# Altium integrated library Altera APEX II.IntLib: 30 symbols (part 9 of 15)
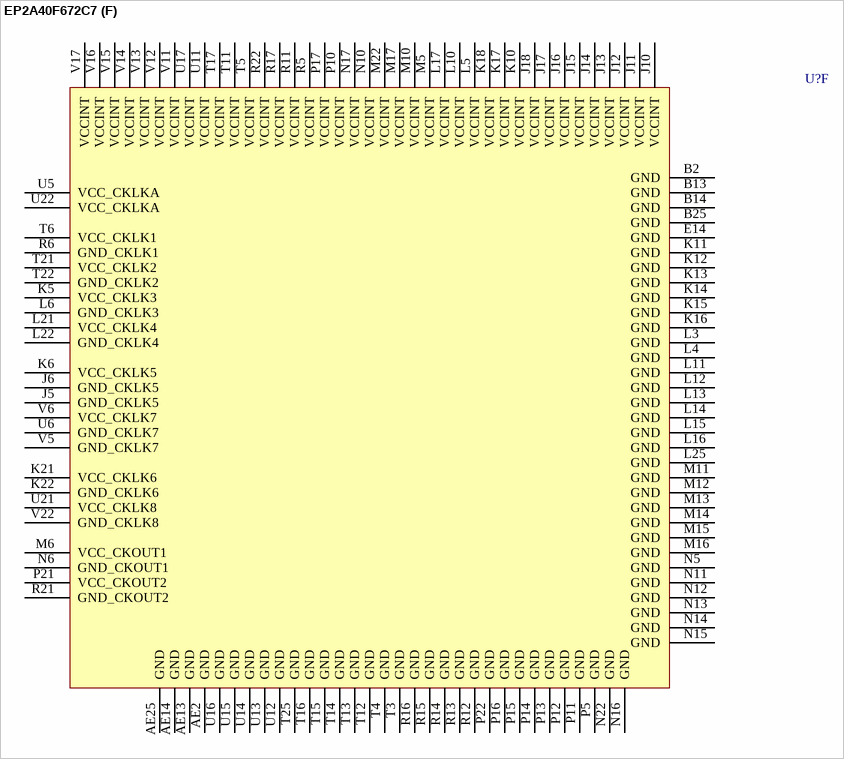
[diagram p139: symbol EP2A40F672C7]

## EP2A40F672C7
designator U?
APEX II, 1.5V FPGA with 4 PLLs, 492 I/O pins, Commercial Grade, Speed Grade 7; Published: 23-Sep-2002; LatestRevisionDate: 13-Apr-2006; LatestRevisionNote: IPC-7351 Footprint Added.; DatasheetVersion: ver3.0, Aug-2002; PackageVersion: ver14.1, Oct-2005; PackageReference: FBGA672; Publisher: Altium Limited; PackageDescription: 672-Ball FineLine Ball Grid Array (FBGA672) - Flip Chip; Code_JEDEC: MS-034-AAL-1; ComponentLink1Description: Manufacturer Link; ComponentLink1URL: http://www.altera.com/products/devices/apex2/ap2-index.html; ComponentLink2Description: Datasheet; ComponentLink2URL: http://www.altera.com/literature/ds/ds_ap2.pdf
footprint FBGA672 (BGA, 672-Leads, Body 27x27mm, Pitch 1mm)
3D model EP2A40-FBGA672T (672-Ball FineLine Ball Grid Array (FBGA672) - Flip Chip)
part A pins: A2 VCCIO2 (power), A5 IO/FlexDiff_RX30n (io), A6 IO/FlexDiff_RX32n (io), A7 IO/FlexDiff_RX35n (io), A8 IO/FlexDiff_RX39n (io), A9 IO/FlexDiff_RX43p (io), A10 IO/FlexDiff_RX47p (io), A11 IO/FlexDiff_RX51p (io), A12 IO/FlexDiff_RX55p (io), A13 VCCIO2 (power), A14 VCCIO1 (power), A15 IO/FlexDiff_RX24p (io), A16 IO/FlexDiff_RX20p (io), A17 IO/FlexDiff_RX16p (io), A18 IO/FlexDiff_RX12n (io), A19 IO/FlexDiff_RX08n (io), A20 IO/FlexDiff_RX05n (io), A21 IO/DATA5/FlexDiff_RX03n (io), A22 IO/DATA4/FlexDiff_RX01n (io), A25 VCCIO1 (power), B5 IO/FlexDiff_RX30p (io), B6 IO/FlexDiff_RX32p (io), B7 IO/FlexDiff_RX35p (io), B8 IO/FlexDiff_RX39p (io), B9 IO/FlexDiff_RX43n (io), B10 IO/FlexDiff_RX47n (io), B11 IO/FlexDiff_RX51n (io), B12 IO/FlexDiff_RX55n (io), B15 IO/CLKUSR/FlexDiff_RX24n (io), B16 IO/FlexDiff_RX20n (io), B17 IO/FlexDiff_RX16n (io), B18 IO/FlexDiff_RX12p (io), B19 IO/FlexDiff_RX08p (io), B20 IO/FlexDiff_RX05p (io), B21 IO/FlexDiff_RX03p (io), B22 IO/FlexDiff_RX01p (io), C5 IO/FlexDiff_RX29n (io), C6 IO/FlexDiff_RX31n (io), C7 IO/FlexDiff_RX34n (io), C8 IO/FlexDiff_RX38n (io), C9 IO/FlexDiff_RX42n (io), C10 IO/FlexDiff_RX46p (io), C11 IO/FlexDiff_RX50p (io), C12 IO/FlexDiff_RX54p (io), C13 IO/FlexDiff_RX56p (io), C14 IO/FlexDiff_RX28p (io), C15 IO/FlexDiff_RX25p (io), C16 IO/FlexDiff_RX21p (io), C17 IO/FlexDiff_RX17p (io), C18 IO/FlexDiff_RX13n (io), C19 IO/FlexDiff_RX09n (io), C20 IO/FlexDiff_RX06n (io), C21 IO/FlexDiff_RX04n (io), C22 IO/FlexDiff_RX02n (io), D5 IO/FlexDiff_RX29p (io), D6 IO/FlexDiff_RX31p (io), D7 IO/FlexDiff_RX34p (io), D8 IO/FlexDiff_RX38p (io), D9 IO/FlexDiff_RX42p (io), D10 IO/FlexDiff_RX46n (io), D11 IO/FlexDiff_RX50n (io), D12 IO/FlexDiff_RX54n (io), D13 IO/FlexDiff_RX56n (io), D14 IO/FlexDiff_RX28n (io), D15 IO/FlexDiff_RX25n (io), D16 IO/FlexDiff_RX21n (io), D17 IO/FlexDiff_RX17n (io), D18 IO/FlexDiff_RX13p (io), D19 IO/FlexDiff_RX09p (io), D20 IO/FlexDiff_RX06p (io), D21 IO/FlexDiff_RX04p (io), D22 IO/FlexDiff_RX02p (io), E5 IO (io), E6 IO (io), E7 IO/FlexDiff_RX33n (io), E8 IO/FlexDiff_RX37n (io), E9 IO/FlexDiff_RX41n (io), E10 IO/FlexDiff_RX45p (io), E11 IO/FlexDiff_RX49p (io), E12 IO/FlexDiff_RX53p (io), E15 IO/RDYnBSY/FlexDiff_RX26p (io), E16 IO/DATA1/FlexDiff_RX22p (io), E17 IO/FlexDiff_RX18p (io), E18 IO/FlexDiff_RX14n (io), E19 IO/FlexDiff_RX10n (io), E20 IO/FlexDiff_RX07n (io), E21 IO (io), E22 VREFC1 (power), F6 IO (io), F7 IO/FlexDiff_RX33p (io), F8 IO/FlexDiff_RX37p (io), F9 IO/FlexDiff_RX41p (io), F10 IO/FlexDiff_RX45n (io), F11 IO/FlexDiff_RX49n (io), F12 IO/FlexDiff_RX53n (io), F15 IO/FlexDiff_RX26n (io), F16 IO/FlexDiff_RX22n (io), F17 IO/FlexDiff_RX18n (io), F18 IO/DATA3/FlexDiff_RX14p (io), F19 IO/FlexDiff_RX10p (io), F20 IO/FlexDiff_RX07p (io), F21 IO (io), G7 IO (io), G8 IO/FlexDiff_RX36n (io), G9 IO/FlexDiff_RX40n (io), G10 IO/FlexDiff_RX44p (io), G11 IO/FlexDiff_RX48p (io), G12 IO/FlexDiff_RX52p (io), G15 IO/FlexDiff_RX27p (io), G16 IO/FlexDiff_RX23p (io), G17 IO/FlexDiff_RX19p (io), G18 IO/FlexDiff_RX15p (io), G19 IO/FlexDiff_RX11n (io), G20 IO (io), H8 IO/FlexDiff_RX36p (io), H9 IO/FlexDiff_RX40p (io), H10 IO/FlexDiff_RX44n (io), H11 IO/FlexDiff_RX48n (io), H12 IO/FlexDiff_RX52n (io), H13 VCCIO2 (power), H14 VCCIO1 (power), H15 IO/INIT_DONE/FlexDiff_RX27n (io), H16 IO/FlexDiff_RX23n (io), H17 IO/FlexDiff_RX19n (io), H18 IO/FlexDiff_RX15n (io), H19 IO/FlexDiff_RX11p (io), H20 IO/DATA2 (io), J9 VREFC2 (power)
part B pins: A3 IO/TrueDiff_RX02p (io), A4 IO/TrueDiff_RX01n (io), AA1 IO/TrueDiff_RX28n (io), AA2 IO/TrueDiff_RX28p (io), AA3 IO/TrueDiff_RX27p (io), AA4 IO/TrueDiff_RX27n (io), AA5 IO (io), AB1 IO/TrueDiff_RX26n (io), AB2 IO/TrueDiff_RX26p (io), AB3 IO/TrueDiff_RX25p (io), AB4 IO/TrueDiff_RX25n (io), AC1 IO/TrueDiff_RX24n (io), AC2 IO/TrueDiff_RX24p (io), AC3 IO/TrueDiff_RX23p (io), AC4 IO/TrueDiff_RX23n (io), AD1 IO/TrueDiff_RX22n (io), AD2 IO/TrueDiff_RX22p (io), AD3 IO/TrueDiff_RX21p (io), AD4 IO/TrueDiff_RX21n (io), AE1 VCCIO4 (power), AE3 IO/TrueDiff_RX20p (io), AE4 IO/TrueDiff_RX19n (io), AF3 IO/TrueDiff_RX20n (io), AF4 IO/TrueDiff_RX19p (io), B1 VCCIO3 (power), B3 IO/TrueDiff_RX02n (io), B4 IO/TrueDiff_RX01p (io), C1 IO/TrueDiff_RX04n (io), C2 IO/TrueDiff_RX04p (io), C3 IO/TrueDiff_RX03p (io), C4 IO/TrueDiff_RX03n (io), D1 IO/TrueDiff_RX06n (io), D2 IO/TrueDiff_RX06p (io), D3 IO/TrueDiff_RX05p (io), D4 IO/TrueDiff_RX05n (io), E1 IO/TrueDiff_RX08n (io), E2 IO/TrueDiff_RX08p (io), E3 IO/TrueDiff_RX07p (io), E4 IO/TrueDiff_RX07n (io), F1 IO/TrueDiff_RX10n (io), F2 IO/TrueDiff_RX10p (io), F3 IO/TrueDiff_RX09p (io), F4 IO/TrueDiff_RX09n (io), F5 IO (io), G1 IO/TrueDiff_RX12n (io), G2 IO/TrueDiff_RX12p (io), G3 IO/TrueDiff_RX11p (io), G4 IO/TrueDiff_RX11n (io), G5 IO (io), G6 IO (io), H1 IO/TrueDiff_RX14n (io), H2 IO/TrueDiff_RX14p (io), H3 IO/TrueDiff_RX13p (io), H4 IO/TrueDiff_RX13n (io), H5 IO (io), H6 IO (io), H7 IO (io), J1 IO/TrueDiff_RX16n (io), J2 IO/TrueDiff_RX16p (io), J3 IO/TrueDiff_RX15p (io), J4 IO/TrueDiff_RX15n (io), J7 VREFC3 (power), J8 IO (io), K1 IO/TrueDiff_RX18n (io), K2 IO/TrueDiff_RX18p (io), K3 IO/TrueDiff_RX17p (io), K4 IO/TrueDiff_RX17n (io), K7 IO/RXLOCK1 (io), K8 IO (io), K9 IO (io), L1 VCCIO3 (power), L2 VCCIO3 (power), L7 IO/LOCK3 (io), L8 IO (io), L9 IO (io), M1 IO/RXCLK_IN1n (io), M2 IO/RXCLK_IN1p (io), M3 CLK7p (in), M4 IO/CLK7n (io), M8 IO (io), M9 IO (io), N1 IO/CLK5n (io), N2 CLK5p (in), N3 IO/CLKLK_OUT1n (io), N4 CLKLK_OUT1p (out), N8 IO (io), N9 IO (io), P1 CLK1p (in), P2 IO/CLK1n (io), P3 CLK3p (in), P4 IO/CLK3n (io), P8 IO (io), P9 IO (io), R1 IO/CLKLK_FB1n (io), R2 CLKLK_FB1p, R3 IO/RXCLK_IN2n (io), R4 IO/RXCLK_IN2p (io), R8 IO (io), R9 IO (io), R10 IO (io), T1 VCCIO4 (power), T2 VCCIO4 (power), T7 IO/LOCK1 (io), T8 IO (io), T9 IO (io), T10 IO (io), U1 IO/TrueDiff_RX36n (io), U2 IO/TrueDiff_RX36p (io), U3 IO/TrueDiff_RX35p (io), U4 IO/TrueDiff_RX35n (io), U7 IO/RXLOCK2 (io), U8 IO (io), U9 IO (io), U10 IO (io), V1 IO/TrueDiff_RX34n (io), V2 IO/TrueDiff_RX34p (io), V3 IO/TrueDiff_RX33p (io), V4 IO/TrueDiff_RX33n (io), V7 VREFC4 (power), V8 IO (io), W1 IO/TrueDiff_RX32n (io), W2 IO/TrueDiff_RX32p (io), W3 IO/TrueDiff_RX31p (io), W4 IO/TrueDiff_RX31n (io), W5 IO (io), W6 IO (io), W7 IO (io), Y1 IO/TrueDiff_RX30n (io), Y2 IO/TrueDiff_RX30p (io), Y3 IO/TrueDiff_RX29p (io), Y4 IO/TrueDiff_RX29n (io), Y5 IO (io), Y6 IO (io), Y7 IO (io)
part C pins: AA6 IO (io), AA7 IO/FlexDiff_TX33p (io), AA8 IO/FlexDiff_TX37p (io), AA9 IO/FlexDiff_TX41p (io), AA10 IO/FlexDiff_TX45n (io), AA11 IO/FlexDiff_TX49n (io), AA12 IO/FlexDiff_TX53n (io), AA15 IO/FlexDiff_TX26n (io), AA16 IO/FlexDiff_TX22n (io), AA17 IO/FlexDiff_TX18n (io), AA18 IO/FlexDiff_TX14p (io), AA19 IO/FlexDiff_TX10p (io), AA20 IO/FlexDiff_TX07p (io), AA21 IO (io), AB5 IO (io), AB6 IO (io), AB7 IO/FlexDiff_TX33n (io), AB8 IO/FlexDiff_TX37n (io), AB9 IO/FlexDiff_TX41n (io), AB10 IO/FlexDiff_TX45p (io), AB11 IO/FlexDiff_TX49p (io), AB12 IO/FlexDiff_TX53p (io), AB15 IO/FlexDiff_TX26p (io), AB16 IO/FlexDiff_TX22p (io), AB17 IO/FlexDiff_TX18p (io), AB18 IO/FlexDiff_TX14n (io), AB19 IO/FlexDiff_TX10n (io), AB20 IO/FlexDiff_TX07n (io), AB21 IO (io), AC5 IO/FlexDiff_TX29p (io), AC6 IO/FlexDiff_TX31p (io), AC7 IO/FlexDiff_TX34p (io), AC8 IO/FlexDiff_TX38p (io), AC9 IO/FlexDiff_TX42p (io), AC10 IO/FlexDiff_TX46n (io), AC11 IO/FlexDiff_TX50n (io), AC12 IO/FlexDiff_TX54n (io), AC13 IO/FlexDiff_TX56n (io), AC14 IO/FlexDiff_TX28n (io), AC15 IO/FlexDiff_TX25n (io), AC16 IO/FlexDiff_TX21n (io), AC17 IO/FlexDiff_TX17n (io), AC18 IO/FlexDiff_TX13p (io), AC19 IO/FlexDiff_TX09p (io), AC20 IO/FlexDiff_TX06p (io), AC21 IO/FlexDiff_TX04p (io), AC22 IO/FlexDiff_TX02p (io), AD5 IO/FlexDiff_TX29n (io), AD6 IO/FlexDiff_TX31n (io), AD7 IO/FlexDiff_TX34n (io), AD8 IO/FlexDiff_TX38n (io), AD9 IO/FlexDiff_TX42n (io), AD10 IO/FlexDiff_TX46p (io), AD11 IO/FlexDiff_TX50p (io), AD12 IO/FlexDiff_TX54p (io), AD13 IO/FlexDiff_TX56p (io), AD14 IO/FlexDiff_TX28p (io), AD15 IO/FlexDiff_TX25p (io), AD16 IO/FlexDiff_TX21p (io), AD17 IO/FlexDiff_TX17p (io), AD18 IO/FlexDiff_TX13n (io), AD19 IO/FlexDiff_TX09n (io), AD20 IO/FlexDiff_TX06n (io), AD21 IO/FlexDiff_TX04n (io), AD22 IO/FlexDiff_TX02n (io), AE5 IO/FlexDiff_TX30p (io), AE6 IO/FlexDiff_TX32p (io), AE7 IO/FlexDiff_TX35p (io), AE8 IO/FlexDiff_TX39p (io), AE9 IO/FlexDiff_TX43n (io), AE10 IO/FlexDiff_TX47n (io), AE11 IO/FlexDiff_TX51n (io), AE12 IO/FlexDiff_TX55n (io), AE15 IO/FlexDiff_TX24n (io), AE16 IO/FlexDiff_TX20n (io), AE17 IO/FlexDiff_TX16n (io), AE18 IO/FlexDiff_TX12p (io), AE19 IO/FlexDiff_TX08p (io), AE20 IO/FlexDiff_TX05p (io), AE21 IO/FlexDiff_TX03p (io), AE22 IO/FlexDiff_TX01p (io), AF2 VCCIO5 (power), AF5 IO/FlexDiff_TX30n (io), AF6 IO/FlexDiff_TX32n (io), AF7 IO/FlexDiff_TX35n (io), AF8 IO/FlexDiff_TX39n (io), AF9 IO/FlexDiff_TX43p (io), AF10 IO/FlexDiff_TX47p (io), AF11 IO/FlexDiff_TX51p (io), AF12 IO/FlexDiff_TX55p (io), AF13 VCCIO5 (power), AF14 VCCIO6 (power), AF15 IO/FlexDiff_TX24p (io), AF16 IO/FlexDiff_TX20p (io), AF17 IO/FlexDiff_TX16p (io), AF18 IO/FlexDiff_TX12n (io), AF19 IO/FlexDiff_TX08n (io), AF20 IO/FlexDiff_TX05n (io), AF21 IO/FlexDiff_TX03n (io), AF22 IO/FlexDiff_TX01n (io), AF25 VCCIO6 (power), V9 IO (io), V10 VREFC5 (power), V18 IO/CDS_ENA (io), W8 IO/FlexDiff_TX36p (io), W9 IO/FlexDiff_TX40p (io), W10 IO/FlexDiff_TX44n (io), W11 IO/FlexDiff_TX48n (io), W12 IO/FlexDiff_TX52n (io), W13 VCCIO5 (power), W14 VCCIO6 (power), W15 IO/FlexDiff_TX27n (io), W16 IO/FlexDiff_TX23n (io), W17 IO/FlexDiff_TX19n (io), W18 IO/FlexDiff_TX15n (io), W19 IO/FlexDiff_TX11p (io), W20 VREFC6 (power), Y8 IO/FlexDiff_TX36n (io), Y9 IO/FlexDiff_TX40n (io), Y10 IO/FlexDiff_TX44p (io), Y11 IO/FlexDiff_TX48p (io), Y12 IO/FlexDiff_TX52p (io), Y15 IO/FlexDiff_TX27p (io), Y16 IO/FlexDiff_TX23p (io), Y17 IO/FlexDiff_TX19p (io), Y18 IO/FlexDiff_TX15p (io), Y19 IO/FlexDiff_TX11n (io), Y20 IO (io)
part D pins: A23 IO/TrueDiff_TX01p (io), A24 IO/TrueDiff_TX02n (io), AA22 IO/TXLOCK2 (io), AA23 IO/TrueDiff_TX27n (io), AA24 IO/TrueDiff_TX27p (io), AA25 IO/TrueDiff_TX28p (io), AA26 IO/TrueDiff_TX28n (io), AB22 IO (io), AB23 IO/TrueDiff_TX25n (io), AB24 IO/TrueDiff_TX25p (io), AB25 IO/TrueDiff_TX26p (io), AB26 IO/TrueDiff_TX26n (io), AC23 IO/TrueDiff_TX23n (io), AC24 IO/TrueDiff_TX23p (io), AC25 IO/TrueDiff_TX24p (io), AC26 IO/TrueDiff_TX24n (io), AD23 IO/TrueDiff_TX21n (io), AD24 IO/TrueDiff_TX21p (io), AD25 IO/TrueDiff_TX22p (io), AD26 IO/TrueDiff_TX22n (io), AE23 IO/TrueDiff_TX19p (io), AE24 IO/TrueDiff_TX20n (io), AE26 VCCIO7 (power), AF23 IO/TrueDiff_TX19n (io), AF24 IO/TrueDiff_TX20p (io), B23 IO/TrueDiff_TX01n (io), B24 IO/TrueDiff_TX02p (io), B26 VCCIO8 (power), C23 IO/TrueDiff_TX03n (io), C24 IO/TrueDiff_TX03p (io), C25 IO/TrueDiff_TX04p (io), C26 IO/TrueDiff_TX04n (io), D23 IO/TrueDiff_TX05n (io), D24 IO/TrueDiff_TX05p (io), D25 IO/TrueDiff_TX06p (io), D26 IO/TrueDiff_TX06n (io), E23 IO/TrueDiff_TX07n (io), E24 IO/TrueDiff_TX07p (io), E25 IO/TrueDiff_TX08p (io), E26 IO/TrueDiff_TX08n (io), F22 IO/nWS (io), F23 IO/TrueDiff_TX09n (io), F24 IO/TrueDiff_TX09p (io), F25 IO/TrueDiff_TX10p (io), F26 IO/TrueDiff_TX10n (io), G21 IO/nCS (io), G22 IO/nRS (io), G23 IO/TrueDiff_TX11n (io), G24 IO/TrueDiff_TX11p (io), G25 IO/TrueDiff_TX12p (io), G26 IO/TrueDiff_TX12n (io), H21 IO/DEV_CLRn (io), H22 IO/CS (io), H23 IO/TrueDiff_TX13n (io), H24 IO/TrueDiff_TX13p (io), H25 IO/TrueDiff_TX14p (io), H26 IO/TrueDiff_TX14n (io), J19 IO (io), J20 IO (io), J21 IO/TXLOCK1 (io), J22 VREFC8 (power), J23 IO/TrueDiff_TX15p (io), J24 IO/TrueDiff_TX15n (io), J25 IO/TrueDiff_TX16p (io), J26 IO/TrueDiff_TX16n (io), K19 IO (io), K20 IO/LOCK4 (io), K23 IO/TrueDiff_TX17n (io), K24 IO/TrueDiff_TX17p (io), K25 IO/TrueDiff_TX18p (io), K26 IO/TrueDiff_TX18n (io), L18 IO (io), L19 IO (io), L20 IO/DATA6 (io), L23 IO/TXCLK_OUT1n (io), L24 IO/TXCLK_OUT1p (io), L26 VCCIO8 (power), M18 IO (io), M19 IO (io), M20 IO/DATA7 (io), M21 VCCIO8 (power), M23 IO/CLK4n (io), M24 CLK4p (in), M25 IO (io), M26 IO (io), N18 IO (io), N19 IO (io), N21 VCCIO7 (power), N23 CLK2p (in), N24 IO/CLK2n (io), N25 CLKLK_FB2p, N26 IO/CLKLK_FB2n (io), P18 IO (io), P19 IO (io), P23 IO/CLK6n (io), P24 CLK6p (in), P25 CLKLK_OUT2p (out), P26 IO/CLKLK_OUT2n (io), R18 IO (io), R19 IO (io), R23 IO (io), R24 IO (io), R25 IO/CLK8n (io), R26 CLK8p (in), T18 IO (io), T19 IO (io), T23 IO/TXCLK_OUT2n (io), T24 IO/TXCLK_OUT2p (io), T26 VCCIO7 (power), U18 IO (io), U19 IO (io), U23 IO/TrueDiff_TX35n (io), U24 IO/TrueDiff_TX35p (io), U25 IO/TrueDiff_TX36p (io), U26 IO/TrueDiff_TX36n (io), V19 IO (io), V20 IO (io), V21 IO/DEV_OE (io), V23 IO/TrueDiff_TX33n (io), V24 IO/TrueDiff_TX33p (io), V25 IO/TrueDiff_TX34p (io), V26 IO/TrueDiff_TX34n (io), W21 IO (io), W22 IO/LOCK2 (io), W23 IO/TrueDiff_TX31n (io), W24 IO/TrueDiff_TX31p (io), W25 IO/TrueDiff_TX32p (io), W26 IO/TrueDiff_TX32n (io), Y21 IO (io), Y22 VREFC7 (power), Y23 IO/TrueDiff_TX29n (io), Y24 IO/TrueDiff_TX29p (io), Y25 IO/TrueDiff_TX30p (io), Y26 IO/TrueDiff_TX30n (io)
part E pins: AA13 TCK (in), AA14 nSTATUS (in), AB13 TMS (in), AB14 CONF_DONE (in), E13 TRST (in), F13 nCEO (out), F14 TDO (out), G13 FAST1 (in), G14 FAST2 (in), M7 MSEL1 (in), N7 MSEL0 (in), N20 nIO_PULLUP (in), P6 VCCSEL (in), P7 nCONFIG (in), P20 DATA0 (in), R7 PLL_ENA (in), R20 DCLK (in), T20 TDI (in), U20 nCE (in), Y13 FAST3 (in), Y14 FAST4 (in)
part F pins: AE2 GND (power), AE13 GND (power), AE14 GND (power), AE25 GND (power), B2 GND (power), B13 GND (power), B14 GND (power), B25 GND (power), E14 GND (power), J5 GND_CKLK5 (power), J6 GND_CKLK5 (power), J10 VCCINT (power), J11 VCCINT (power), J12 VCCINT (power), J13 VCCINT (power), J14 VCCINT (power), J15 VCCINT (power), J16 VCCINT (power), J17 VCCINT (power), J18 VCCINT (power), K5 VCC_CKLK3 (power), K6 VCC_CKLK5 (power), K10 VCCINT (power), K11 GND (power), K12 GND (power), K13 GND (power), K14 GND (power), K15 GND (power), K16 GND (power), K17 VCCINT (power), K18 VCCINT (power), K21 VCC_CKLK6 (power), K22 GND_CKLK6 (power), L3 GND (power), L4 GND (power), L5 VCCINT (power), L6 GND_CKLK3 (power), L10 VCCINT (power), L11 GND (power), L12 GND (power), L13 GND (power), L14 GND (power), L15 GND (power), L16 GND (power), L17 VCCINT (power), L21 VCC_CKLK4 (power), L22 GND_CKLK4 (power), L25 GND (power), M5 VCCINT (power), M6 VCC_CKOUT1 (power), M10 VCCINT (power), M11 GND (power), M12 GND (power), M13 GND (power), M14 GND (power), M15 GND (power), M16 GND (power), M17 VCCINT (power), M22 VCCINT (power), N5 GND (power), N6 GND_CKOUT1 (power), N10 VCCINT (power), N11 GND (power), N12 GND (power), N13 GND (power), N14 GND (power), N15 GND (power), N16 GND (power), N17 VCCINT (power), N22 GND (power), P5 GND (power), P10 VCCINT (power), P11 GND (power), P12 GND (power), P13 GND (power), P14 GND (power), P15 GND (power), P16 GND (power), P17 VCCINT (power), P21 VCC_CKOUT2 (power), P22 GND (power), R5 VCCINT (power), R6 GND_CKLK1 (power), R11 VCCINT (power), R12 GND (power), R13 GND (power), R14 GND (power), R15 GND (power), R16 GND (power), R17 VCCINT (power), R21 GND_CKOUT2 (power), R22 VCCINT (power), T3 GND (power), T4 GND (power), T5 VCCINT (power), T6 VCC_CKLK1 (power), T11 VCCINT (power), T12 GND (power), T13 GND (power), T14 GND (power), T15 GND (power), T16 GND (power), T17 VCCINT (power), T21 VCC_CKLK2 (power), T22 GND_CKLK2 (power), T25 GND (power), U5 VCC_CKLKA (power), U6 GND_CKLK7 (power), U11 VCCINT (power), U12 GND (power), U13 GND (power), U14 GND (power), U15 GND (power), U16 GND (power), U17 VCCINT (power), U21 VCC_CKLK8 (power), U22 VCC_CKLKA (power), V5 GND_CKLK7 (power), V6 VCC_CKLK7 (power), V11 VCCINT (power), V12 VCCINT (power), V13 VCCINT (power), V14 VCCINT (power), V15 VCCINT (power), V16 VCCINT (power), V17 VCCINT (power), V22 GND_CKLK8 (power)
part A text: BANK 2; BANK 1
part B text: BANK 4; BANK 3
part C text: BANK 6; BANK 5
part D text: BANK 8; BANK 7

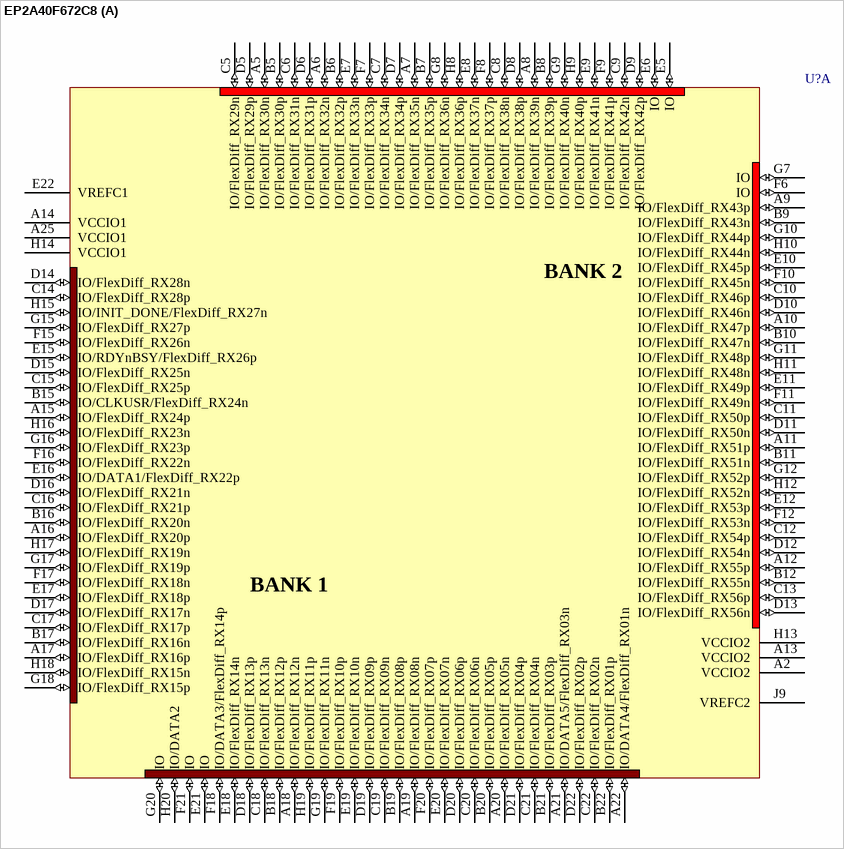
[diagram p81: symbol EP2A40F672C8]

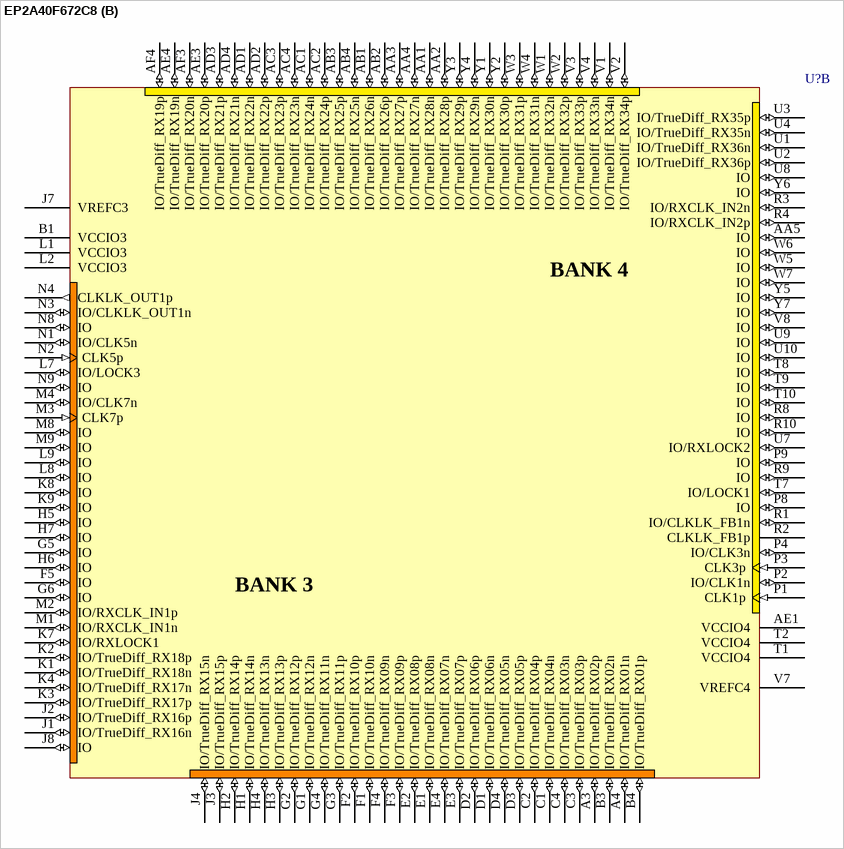
[diagram p82: symbol EP2A40F672C8]

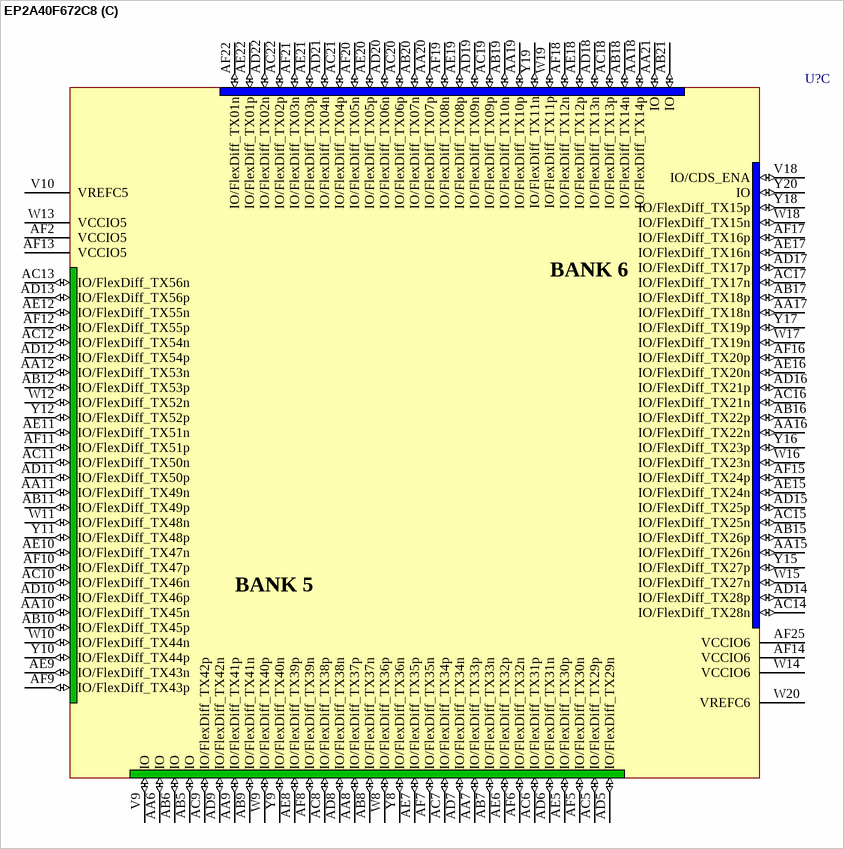
[diagram p83: symbol EP2A40F672C8]

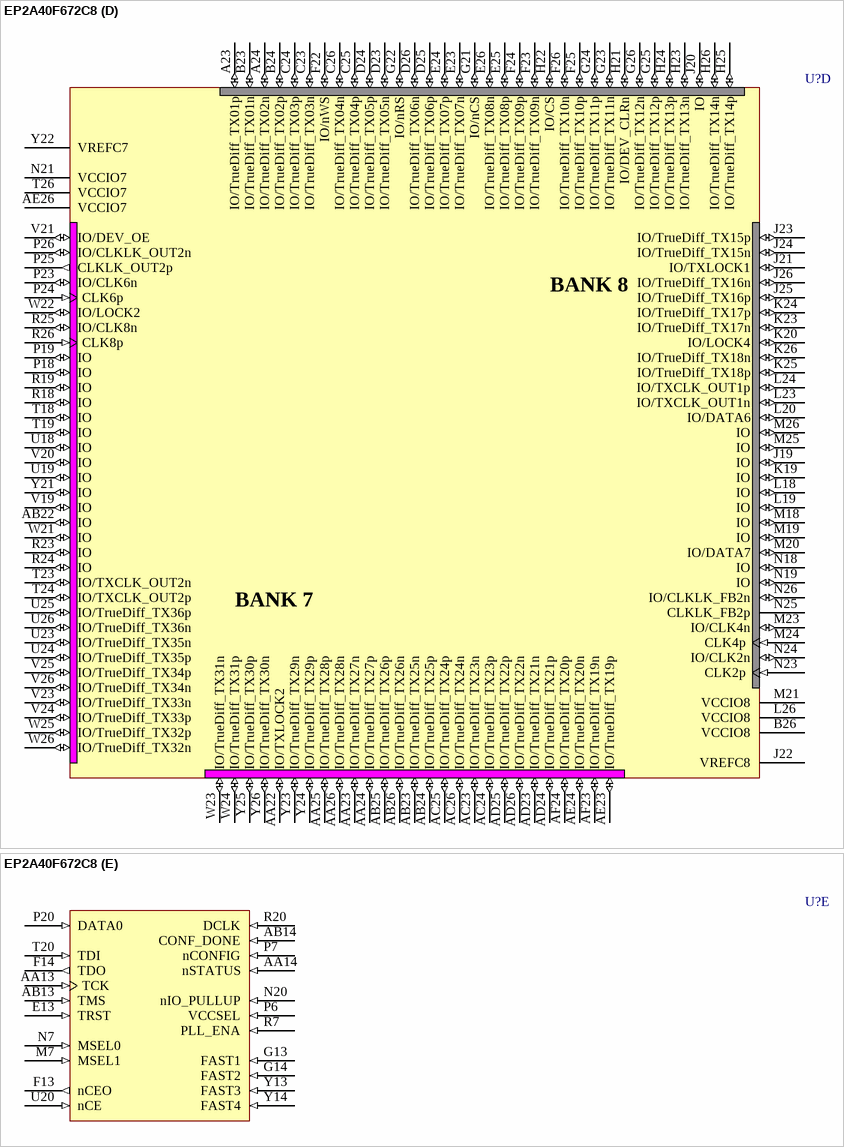
[diagram p84: symbol EP2A40F672C8]

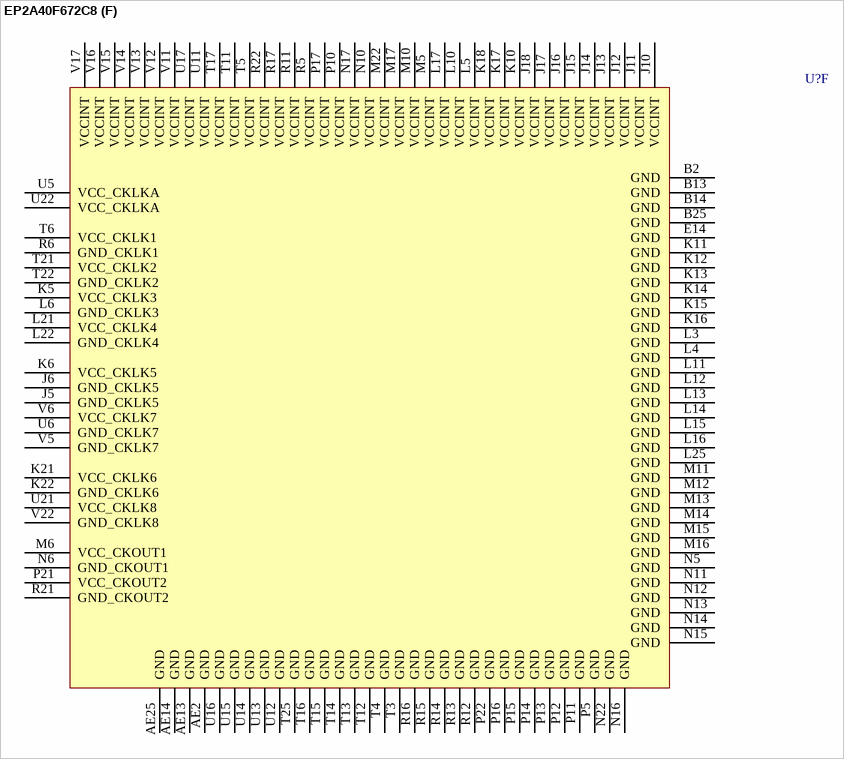
[diagram p85: symbol EP2A40F672C8]

## EP2A40F672C8
designator U?
APEX II, 1.5V FPGA with 4 PLLs, 492 I/O pins, Commercial Grade, Speed Grade 8; Published: 23-Sep-2002; LatestRevisionDate: 13-Apr-2006; LatestRevisionNote: IPC-7351 Footprint Added.; DatasheetVersion: ver3.0, Aug-2002; PackageVersion: ver14.1, Oct-2005; PackageReference: FBGA672; Publisher: Altium Limited; PackageDescription: 672-Ball FineLine Ball Grid Array (FBGA672) - Flip Chip; Code_JEDEC: MS-034-AAL-1; ComponentLink1Description: Manufacturer Link; ComponentLink1URL: http://www.altera.com/products/devices/apex2/ap2-index.html; ComponentLink2Description: Datasheet; ComponentLink2URL: http://www.altera.com/literature/ds/ds_ap2.pdf
footprint FBGA672 (BGA, 672-Leads, Body 27x27mm, Pitch 1mm)
3D model EP2A40-FBGA672T (672-Ball FineLine Ball Grid Array (FBGA672) - Flip Chip)
part A pins: A2 VCCIO2 (power), A5 IO/FlexDiff_RX30n (io), A6 IO/FlexDiff_RX32n (io), A7 IO/FlexDiff_RX35n (io), A8 IO/FlexDiff_RX39n (io), A9 IO/FlexDiff_RX43p (io), A10 IO/FlexDiff_RX47p (io), A11 IO/FlexDiff_RX51p (io), A12 IO/FlexDiff_RX55p (io), A13 VCCIO2 (power), A14 VCCIO1 (power), A15 IO/FlexDiff_RX24p (io), A16 IO/FlexDiff_RX20p (io), A17 IO/FlexDiff_RX16p (io), A18 IO/FlexDiff_RX12n (io), A19 IO/FlexDiff_RX08n (io), A20 IO/FlexDiff_RX05n (io), A21 IO/DATA5/FlexDiff_RX03n (io), A22 IO/DATA4/FlexDiff_RX01n (io), A25 VCCIO1 (power), B5 IO/FlexDiff_RX30p (io), B6 IO/FlexDiff_RX32p (io), B7 IO/FlexDiff_RX35p (io), B8 IO/FlexDiff_RX39p (io), B9 IO/FlexDiff_RX43n (io), B10 IO/FlexDiff_RX47n (io), B11 IO/FlexDiff_RX51n (io), B12 IO/FlexDiff_RX55n (io), B15 IO/CLKUSR/FlexDiff_RX24n (io), B16 IO/FlexDiff_RX20n (io), B17 IO/FlexDiff_RX16n (io), B18 IO/FlexDiff_RX12p (io), B19 IO/FlexDiff_RX08p (io), B20 IO/FlexDiff_RX05p (io), B21 IO/FlexDiff_RX03p (io), B22 IO/FlexDiff_RX01p (io), C5 IO/FlexDiff_RX29n (io), C6 IO/FlexDiff_RX31n (io), C7 IO/FlexDiff_RX34n (io), C8 IO/FlexDiff_RX38n (io), C9 IO/FlexDiff_RX42n (io), C10 IO/FlexDiff_RX46p (io), C11 IO/FlexDiff_RX50p (io), C12 IO/FlexDiff_RX54p (io), C13 IO/FlexDiff_RX56p (io), C14 IO/FlexDiff_RX28p (io), C15 IO/FlexDiff_RX25p (io), C16 IO/FlexDiff_RX21p (io), C17 IO/FlexDiff_RX17p (io), C18 IO/FlexDiff_RX13n (io), C19 IO/FlexDiff_RX09n (io), C20 IO/FlexDiff_RX06n (io), C21 IO/FlexDiff_RX04n (io), C22 IO/FlexDiff_RX02n (io), D5 IO/FlexDiff_RX29p (io), D6 IO/FlexDiff_RX31p (io), D7 IO/FlexDiff_RX34p (io), D8 IO/FlexDiff_RX38p (io), D9 IO/FlexDiff_RX42p (io), D10 IO/FlexDiff_RX46n (io), D11 IO/FlexDiff_RX50n (io), D12 IO/FlexDiff_RX54n (io), D13 IO/FlexDiff_RX56n (io), D14 IO/FlexDiff_RX28n (io), D15 IO/FlexDiff_RX25n (io), D16 IO/FlexDiff_RX21n (io), D17 IO/FlexDiff_RX17n (io), D18 IO/FlexDiff_RX13p (io), D19 IO/FlexDiff_RX09p (io), D20 IO/FlexDiff_RX06p (io), D21 IO/FlexDiff_RX04p (io), D22 IO/FlexDiff_RX02p (io), E5 IO (io), E6 IO (io), E7 IO/FlexDiff_RX33n (io), E8 IO/FlexDiff_RX37n (io), E9 IO/FlexDiff_RX41n (io), E10 IO/FlexDiff_RX45p (io), E11 IO/FlexDiff_RX49p (io), E12 IO/FlexDiff_RX53p (io), E15 IO/RDYnBSY/FlexDiff_RX26p (io), E16 IO/DATA1/FlexDiff_RX22p (io), E17 IO/FlexDiff_RX18p (io), E18 IO/FlexDiff_RX14n (io), E19 IO/FlexDiff_RX10n (io), E20 IO/FlexDiff_RX07n (io), E21 IO (io), E22 VREFC1 (power), F6 IO (io), F7 IO/FlexDiff_RX33p (io), F8 IO/FlexDiff_RX37p (io), F9 IO/FlexDiff_RX41p (io), F10 IO/FlexDiff_RX45n (io), F11 IO/FlexDiff_RX49n (io), F12 IO/FlexDiff_RX53n (io), F15 IO/FlexDiff_RX26n (io), F16 IO/FlexDiff_RX22n (io), F17 IO/FlexDiff_RX18n (io), F18 IO/DATA3/FlexDiff_RX14p (io), F19 IO/FlexDiff_RX10p (io), F20 IO/FlexDiff_RX07p (io), F21 IO (io), G7 IO (io), G8 IO/FlexDiff_RX36n (io), G9 IO/FlexDiff_RX40n (io), G10 IO/FlexDiff_RX44p (io), G11 IO/FlexDiff_RX48p (io), G12 IO/FlexDiff_RX52p (io), G15 IO/FlexDiff_RX27p (io), G16 IO/FlexDiff_RX23p (io), G17 IO/FlexDiff_RX19p (io), G18 IO/FlexDiff_RX15p (io), G19 IO/FlexDiff_RX11n (io), G20 IO (io), H8 IO/FlexDiff_RX36p (io), H9 IO/FlexDiff_RX40p (io), H10 IO/FlexDiff_RX44n (io), H11 IO/FlexDiff_RX48n (io), H12 IO/FlexDiff_RX52n (io), H13 VCCIO2 (power), H14 VCCIO1 (power), H15 IO/INIT_DONE/FlexDiff_RX27n (io), H16 IO/FlexDiff_RX23n (io), H17 IO/FlexDiff_RX19n (io), H18 IO/FlexDiff_RX15n (io), H19 IO/FlexDiff_RX11p (io), H20 IO/DATA2 (io), J9 VREFC2 (power)
part B pins: A3 IO/TrueDiff_RX02p (io), A4 IO/TrueDiff_RX01n (io), AA1 IO/TrueDiff_RX28n (io), AA2 IO/TrueDiff_RX28p (io), AA3 IO/TrueDiff_RX27p (io), AA4 IO/TrueDiff_RX27n (io), AA5 IO (io), AB1 IO/TrueDiff_RX26n (io), AB2 IO/TrueDiff_RX26p (io), AB3 IO/TrueDiff_RX25p (io), AB4 IO/TrueDiff_RX25n (io), AC1 IO/TrueDiff_RX24n (io), AC2 IO/TrueDiff_RX24p (io), AC3 IO/TrueDiff_RX23p (io), AC4 IO/TrueDiff_RX23n (io), AD1 IO/TrueDiff_RX22n (io), AD2 IO/TrueDiff_RX22p (io), AD3 IO/TrueDiff_RX21p (io), AD4 IO/TrueDiff_RX21n (io), AE1 VCCIO4 (power), AE3 IO/TrueDiff_RX20p (io), AE4 IO/TrueDiff_RX19n (io), AF3 IO/TrueDiff_RX20n (io), AF4 IO/TrueDiff_RX19p (io), B1 VCCIO3 (power), B3 IO/TrueDiff_RX02n (io), B4 IO/TrueDiff_RX01p (io), C1 IO/TrueDiff_RX04n (io), C2 IO/TrueDiff_RX04p (io), C3 IO/TrueDiff_RX03p (io), C4 IO/TrueDiff_RX03n (io), D1 IO/TrueDiff_RX06n (io), D2 IO/TrueDiff_RX06p (io), D3 IO/TrueDiff_RX05p (io), D4 IO/TrueDiff_RX05n (io), E1 IO/TrueDiff_RX08n (io), E2 IO/TrueDiff_RX08p (io), E3 IO/TrueDiff_RX07p (io), E4 IO/TrueDiff_RX07n (io), F1 IO/TrueDiff_RX10n (io), F2 IO/TrueDiff_RX10p (io), F3 IO/TrueDiff_RX09p (io), F4 IO/TrueDiff_RX09n (io), F5 IO (io), G1 IO/TrueDiff_RX12n (io), G2 IO/TrueDiff_RX12p (io), G3 IO/TrueDiff_RX11p (io), G4 IO/TrueDiff_RX11n (io), G5 IO (io), G6 IO (io), H1 IO/TrueDiff_RX14n (io), H2 IO/TrueDiff_RX14p (io), H3 IO/TrueDiff_RX13p (io), H4 IO/TrueDiff_RX13n (io), H5 IO (io), H6 IO (io), H7 IO (io), J1 IO/TrueDiff_RX16n (io), J2 IO/TrueDiff_RX16p (io), J3 IO/TrueDiff_RX15p (io), J4 IO/TrueDiff_RX15n (io), J7 VREFC3 (power), J8 IO (io), K1 IO/TrueDiff_RX18n (io), K2 IO/TrueDiff_RX18p (io), K3 IO/TrueDiff_RX17p (io), K4 IO/TrueDiff_RX17n (io), K7 IO/RXLOCK1 (io), K8 IO (io), K9 IO (io), L1 VCCIO3 (power), L2 VCCIO3 (power), L7 IO/LOCK3 (io), L8 IO (io), L9 IO (io), M1 IO/RXCLK_IN1n (io), M2 IO/RXCLK_IN1p (io), M3 CLK7p (in), M4 IO/CLK7n (io), M8 IO (io), M9 IO (io), N1 IO/CLK5n (io), N2 CLK5p (in), N3 IO/CLKLK_OUT1n (io), N4 CLKLK_OUT1p (out), N8 IO (io), N9 IO (io), P1 CLK1p (in), P2 IO/CLK1n (io), P3 CLK3p (in), P4 IO/CLK3n (io), P8 IO (io), P9 IO (io), R1 IO/CLKLK_FB1n (io), R2 CLKLK_FB1p, R3 IO/RXCLK_IN2n (io), R4 IO/RXCLK_IN2p (io), R8 IO (io), R9 IO (io), R10 IO (io), T1 VCCIO4 (power), T2 VCCIO4 (power), T7 IO/LOCK1 (io), T8 IO (io), T9 IO (io), T10 IO (io), U1 IO/TrueDiff_RX36n (io), U2 IO/TrueDiff_RX36p (io), U3 IO/TrueDiff_RX35p (io), U4 IO/TrueDiff_RX35n (io), U7 IO/RXLOCK2 (io), U8 IO (io), U9 IO (io), U10 IO (io), V1 IO/TrueDiff_RX34n (io), V2 IO/TrueDiff_RX34p (io), V3 IO/TrueDiff_RX33p (io), V4 IO/TrueDiff_RX33n (io), V7 VREFC4 (power), V8 IO (io), W1 IO/TrueDiff_RX32n (io), W2 IO/TrueDiff_RX32p (io), W3 IO/TrueDiff_RX31p (io), W4 IO/TrueDiff_RX31n (io), W5 IO (io), W6 IO (io), W7 IO (io), Y1 IO/TrueDiff_RX30n (io), Y2 IO/TrueDiff_RX30p (io), Y3 IO/TrueDiff_RX29p (io), Y4 IO/TrueDiff_RX29n (io), Y5 IO (io), Y6 IO (io), Y7 IO (io)
part C pins: AA6 IO (io), AA7 IO/FlexDiff_TX33p (io), AA8 IO/FlexDiff_TX37p (io), AA9 IO/FlexDiff_TX41p (io), AA10 IO/FlexDiff_TX45n (io), AA11 IO/FlexDiff_TX49n (io), AA12 IO/FlexDiff_TX53n (io), AA15 IO/FlexDiff_TX26n (io), AA16 IO/FlexDiff_TX22n (io), AA17 IO/FlexDiff_TX18n (io), AA18 IO/FlexDiff_TX14p (io), AA19 IO/FlexDiff_TX10p (io), AA20 IO/FlexDiff_TX07p (io), AA21 IO (io), AB5 IO (io), AB6 IO (io), AB7 IO/FlexDiff_TX33n (io), AB8 IO/FlexDiff_TX37n (io), AB9 IO/FlexDiff_TX41n (io), AB10 IO/FlexDiff_TX45p (io), AB11 IO/FlexDiff_TX49p (io), AB12 IO/FlexDiff_TX53p (io), AB15 IO/FlexDiff_TX26p (io), AB16 IO/FlexDiff_TX22p (io), AB17 IO/FlexDiff_TX18p (io), AB18 IO/FlexDiff_TX14n (io), AB19 IO/FlexDiff_TX10n (io), AB20 IO/FlexDiff_TX07n (io), AB21 IO (io), AC5 IO/FlexDiff_TX29p (io), AC6 IO/FlexDiff_TX31p (io), AC7 IO/FlexDiff_TX34p (io), AC8 IO/FlexDiff_TX38p (io), AC9 IO/FlexDiff_TX42p (io), AC10 IO/FlexDiff_TX46n (io), AC11 IO/FlexDiff_TX50n (io), AC12 IO/FlexDiff_TX54n (io), AC13 IO/FlexDiff_TX56n (io), AC14 IO/FlexDiff_TX28n (io), AC15 IO/FlexDiff_TX25n (io), AC16 IO/FlexDiff_TX21n (io), AC17 IO/FlexDiff_TX17n (io), AC18 IO/FlexDiff_TX13p (io), AC19 IO/FlexDiff_TX09p (io), AC20 IO/FlexDiff_TX06p (io), AC21 IO/FlexDiff_TX04p (io), AC22 IO/FlexDiff_TX02p (io), AD5 IO/FlexDiff_TX29n (io), AD6 IO/FlexDiff_TX31n (io), AD7 IO/FlexDiff_TX34n (io), AD8 IO/FlexDiff_TX38n (io), AD9 IO/FlexDiff_TX42n (io), AD10 IO/FlexDiff_TX46p (io), AD11 IO/FlexDiff_TX50p (io), AD12 IO/FlexDiff_TX54p (io), AD13 IO/FlexDiff_TX56p (io), AD14 IO/FlexDiff_TX28p (io), AD15 IO/FlexDiff_TX25p (io), AD16 IO/FlexDiff_TX21p (io), AD17 IO/FlexDiff_TX17p (io), AD18 IO/FlexDiff_TX13n (io), AD19 IO/FlexDiff_TX09n (io), AD20 IO/FlexDiff_TX06n (io), AD21 IO/FlexDiff_TX04n (io), AD22 IO/FlexDiff_TX02n (io), AE5 IO/FlexDiff_TX30p (io), AE6 IO/FlexDiff_TX32p (io), AE7 IO/FlexDiff_TX35p (io), AE8 IO/FlexDiff_TX39p (io), AE9 IO/FlexDiff_TX43n (io), AE10 IO/FlexDiff_TX47n (io), AE11 IO/FlexDiff_TX51n (io), AE12 IO/FlexDiff_TX55n (io), AE15 IO/FlexDiff_TX24n (io), AE16 IO/FlexDiff_TX20n (io), AE17 IO/FlexDiff_TX16n (io), AE18 IO/FlexDiff_TX12p (io), AE19 IO/FlexDiff_TX08p (io), AE20 IO/FlexDiff_TX05p (io), AE21 IO/FlexDiff_TX03p (io), AE22 IO/FlexDiff_TX01p (io), AF2 VCCIO5 (power), AF5 IO/FlexDiff_TX30n (io), AF6 IO/FlexDiff_TX32n (io), AF7 IO/FlexDiff_TX35n (io), AF8 IO/FlexDiff_TX39n (io), AF9 IO/FlexDiff_TX43p (io), AF10 IO/FlexDiff_TX47p (io), AF11 IO/FlexDiff_TX51p (io), AF12 IO/FlexDiff_TX55p (io), AF13 VCCIO5 (power), AF14 VCCIO6 (power), AF15 IO/FlexDiff_TX24p (io), AF16 IO/FlexDiff_TX20p (io), AF17 IO/FlexDiff_TX16p (io), AF18 IO/FlexDiff_TX12n (io), AF19 IO/FlexDiff_TX08n (io), AF20 IO/FlexDiff_TX05n (io), AF21 IO/FlexDiff_TX03n (io), AF22 IO/FlexDiff_TX01n (io), AF25 VCCIO6 (power), V9 IO (io), V10 VREFC5 (power), V18 IO/CDS_ENA (io), W8 IO/FlexDiff_TX36p (io), W9 IO/FlexDiff_TX40p (io), W10 IO/FlexDiff_TX44n (io), W11 IO/FlexDiff_TX48n (io), W12 IO/FlexDiff_TX52n (io), W13 VCCIO5 (power), W14 VCCIO6 (power), W15 IO/FlexDiff_TX27n (io), W16 IO/FlexDiff_TX23n (io), W17 IO/FlexDiff_TX19n (io), W18 IO/FlexDiff_TX15n (io), W19 IO/FlexDiff_TX11p (io), W20 VREFC6 (power), Y8 IO/FlexDiff_TX36n (io), Y9 IO/FlexDiff_TX40n (io), Y10 IO/FlexDiff_TX44p (io), Y11 IO/FlexDiff_TX48p (io), Y12 IO/FlexDiff_TX52p (io), Y15 IO/FlexDiff_TX27p (io), Y16 IO/FlexDiff_TX23p (io), Y17 IO/FlexDiff_TX19p (io), Y18 IO/FlexDiff_TX15p (io), Y19 IO/FlexDiff_TX11n (io), Y20 IO (io)
part D pins: A23 IO/TrueDiff_TX01p (io), A24 IO/TrueDiff_TX02n (io), AA22 IO/TXLOCK2 (io), AA23 IO/TrueDiff_TX27n (io), AA24 IO/TrueDiff_TX27p (io), AA25 IO/TrueDiff_TX28p (io), AA26 IO/TrueDiff_TX28n (io), AB22 IO (io), AB23 IO/TrueDiff_TX25n (io), AB24 IO/TrueDiff_TX25p (io), AB25 IO/TrueDiff_TX26p (io), AB26 IO/TrueDiff_TX26n (io), AC23 IO/TrueDiff_TX23n (io), AC24 IO/TrueDiff_TX23p (io), AC25 IO/TrueDiff_TX24p (io), AC26 IO/TrueDiff_TX24n (io), AD23 IO/TrueDiff_TX21n (io), AD24 IO/TrueDiff_TX21p (io), AD25 IO/TrueDiff_TX22p (io), AD26 IO/TrueDiff_TX22n (io), AE23 IO/TrueDiff_TX19p (io), AE24 IO/TrueDiff_TX20n (io), AE26 VCCIO7 (power), AF23 IO/TrueDiff_TX19n (io), AF24 IO/TrueDiff_TX20p (io), B23 IO/TrueDiff_TX01n (io), B24 IO/TrueDiff_TX02p (io), B26 VCCIO8 (power), C23 IO/TrueDiff_TX03n (io), C24 IO/TrueDiff_TX03p (io), C25 IO/TrueDiff_TX04p (io), C26 IO/TrueDiff_TX04n (io), D23 IO/TrueDiff_TX05n (io), D24 IO/TrueDiff_TX05p (io), D25 IO/TrueDiff_TX06p (io), D26 IO/TrueDiff_TX06n (io), E23 IO/TrueDiff_TX07n (io), E24 IO/TrueDiff_TX07p (io), E25 IO/TrueDiff_TX08p (io), E26 IO/TrueDiff_TX08n (io), F22 IO/nWS (io), F23 IO/TrueDiff_TX09n (io), F24 IO/TrueDiff_TX09p (io), F25 IO/TrueDiff_TX10p (io), F26 IO/TrueDiff_TX10n (io), G21 IO/nCS (io), G22 IO/nRS (io), G23 IO/TrueDiff_TX11n (io), G24 IO/TrueDiff_TX11p (io), G25 IO/TrueDiff_TX12p (io), G26 IO/TrueDiff_TX12n (io), H21 IO/DEV_CLRn (io), H22 IO/CS (io), H23 IO/TrueDiff_TX13n (io), H24 IO/TrueDiff_TX13p (io), H25 IO/TrueDiff_TX14p (io), H26 IO/TrueDiff_TX14n (io), J19 IO (io), J20 IO (io), J21 IO/TXLOCK1 (io), J22 VREFC8 (power), J23 IO/TrueDiff_TX15p (io), J24 IO/TrueDiff_TX15n (io), J25 IO/TrueDiff_TX16p (io), J26 IO/TrueDiff_TX16n (io), K19 IO (io), K20 IO/LOCK4 (io), K23 IO/TrueDiff_TX17n (io), K24 IO/TrueDiff_TX17p (io), K25 IO/TrueDiff_TX18p (io), K26 IO/TrueDiff_TX18n (io), L18 IO (io), L19 IO (io), L20 IO/DATA6 (io), L23 IO/TXCLK_OUT1n (io), L24 IO/TXCLK_OUT1p (io), L26 VCCIO8 (power), M18 IO (io), M19 IO (io), M20 IO/DATA7 (io), M21 VCCIO8 (power), M23 IO/CLK4n (io), M24 CLK4p (in), M25 IO (io), M26 IO (io), N18 IO (io), N19 IO (io), N21 VCCIO7 (power), N23 CLK2p (in), N24 IO/CLK2n (io), N25 CLKLK_FB2p, N26 IO/CLKLK_FB2n (io), P18 IO (io), P19 IO (io), P23 IO/CLK6n (io), P24 CLK6p (in), P25 CLKLK_OUT2p (out), P26 IO/CLKLK_OUT2n (io), R18 IO (io), R19 IO (io), R23 IO (io), R24 IO (io), R25 IO/CLK8n (io), R26 CLK8p (in), T18 IO (io), T19 IO (io), T23 IO/TXCLK_OUT2n (io), T24 IO/TXCLK_OUT2p (io), T26 VCCIO7 (power), U18 IO (io), U19 IO (io), U23 IO/TrueDiff_TX35n (io), U24 IO/TrueDiff_TX35p (io), U25 IO/TrueDiff_TX36p (io), U26 IO/TrueDiff_TX36n (io), V19 IO (io), V20 IO (io), V21 IO/DEV_OE (io), V23 IO/TrueDiff_TX33n (io), V24 IO/TrueDiff_TX33p (io), V25 IO/TrueDiff_TX34p (io), V26 IO/TrueDiff_TX34n (io), W21 IO (io), W22 IO/LOCK2 (io), W23 IO/TrueDiff_TX31n (io), W24 IO/TrueDiff_TX31p (io), W25 IO/TrueDiff_TX32p (io), W26 IO/TrueDiff_TX32n (io), Y21 IO (io), Y22 VREFC7 (power), Y23 IO/TrueDiff_TX29n (io), Y24 IO/TrueDiff_TX29p (io), Y25 IO/TrueDiff_TX30p (io), Y26 IO/TrueDiff_TX30n (io)
part E pins: AA13 TCK (in), AA14 nSTATUS (in), AB13 TMS (in), AB14 CONF_DONE (in), E13 TRST (in), F13 nCEO (out), F14 TDO (out), G13 FAST1 (in), G14 FAST2 (in), M7 MSEL1 (in), N7 MSEL0 (in), N20 nIO_PULLUP (in), P6 VCCSEL (in), P7 nCONFIG (in), P20 DATA0 (in), R7 PLL_ENA (in), R20 DCLK (in), T20 TDI (in), U20 nCE (in), Y13 FAST3 (in), Y14 FAST4 (in)
part F pins: AE2 GND (power), AE13 GND (power), AE14 GND (power), AE25 GND (power), B2 GND (power), B13 GND (power), B14 GND (power), B25 GND (power), E14 GND (power), J5 GND_CKLK5 (power), J6 GND_CKLK5 (power), J10 VCCINT (power), J11 VCCINT (power), J12 VCCINT (power), J13 VCCINT (power), J14 VCCINT (power), J15 VCCINT (power), J16 VCCINT (power), J17 VCCINT (power), J18 VCCINT (power), K5 VCC_CKLK3 (power), K6 VCC_CKLK5 (power), K10 VCCINT (power), K11 GND (power), K12 GND (power), K13 GND (power), K14 GND (power), K15 GND (power), K16 GND (power), K17 VCCINT (power), K18 VCCINT (power), K21 VCC_CKLK6 (power), K22 GND_CKLK6 (power), L3 GND (power), L4 GND (power), L5 VCCINT (power), L6 GND_CKLK3 (power), L10 VCCINT (power), L11 GND (power), L12 GND (power), L13 GND (power), L14 GND (power), L15 GND (power), L16 GND (power), L17 VCCINT (power), L21 VCC_CKLK4 (power), L22 GND_CKLK4 (power), L25 GND (power), M5 VCCINT (power), M6 VCC_CKOUT1 (power), M10 VCCINT (power), M11 GND (power), M12 GND (power), M13 GND (power), M14 GND (power), M15 GND (power), M16 GND (power), M17 VCCINT (power), M22 VCCINT (power), N5 GND (power), N6 GND_CKOUT1 (power), N10 VCCINT (power), N11 GND (power), N12 GND (power), N13 GND (power), N14 GND (power), N15 GND (power), N16 GND (power), N17 VCCINT (power), N22 GND (power), P5 GND (power), P10 VCCINT (power), P11 GND (power), P12 GND (power), P13 GND (power), P14 GND (power), P15 GND (power), P16 GND (power), P17 VCCINT (power), P21 VCC_CKOUT2 (power), P22 GND (power), R5 VCCINT (power), R6 GND_CKLK1 (power), R11 VCCINT (power), R12 GND (power), R13 GND (power), R14 GND (power), R15 GND (power), R16 GND (power), R17 VCCINT (power), R21 GND_CKOUT2 (power), R22 VCCINT (power), T3 GND (power), T4 GND (power), T5 VCCINT (power), T6 VCC_CKLK1 (power), T11 VCCINT (power), T12 GND (power), T13 GND (power), T14 GND (power), T15 GND (power), T16 GND (power), T17 VCCINT (power), T21 VCC_CKLK2 (power), T22 GND_CKLK2 (power), T25 GND (power), U5 VCC_CKLKA (power), U6 GND_CKLK7 (power), U11 VCCINT (power), U12 GND (power), U13 GND (power), U14 GND (power), U15 GND (power), U16 GND (power), U17 VCCINT (power), U21 VCC_CKLK8 (power), U22 VCC_CKLKA (power), V5 GND_CKLK7 (power), V6 VCC_CKLK7 (power), V11 VCCINT (power), V12 VCCINT (power), V13 VCCINT (power), V14 VCCINT (power), V15 VCCINT (power), V16 VCCINT (power), V17 VCCINT (power), V22 GND_CKLK8 (power)
part A text: BANK 2; BANK 1
part B text: BANK 4; BANK 3
part C text: BANK 6; BANK 5
part D text: BANK 8; BANK 7

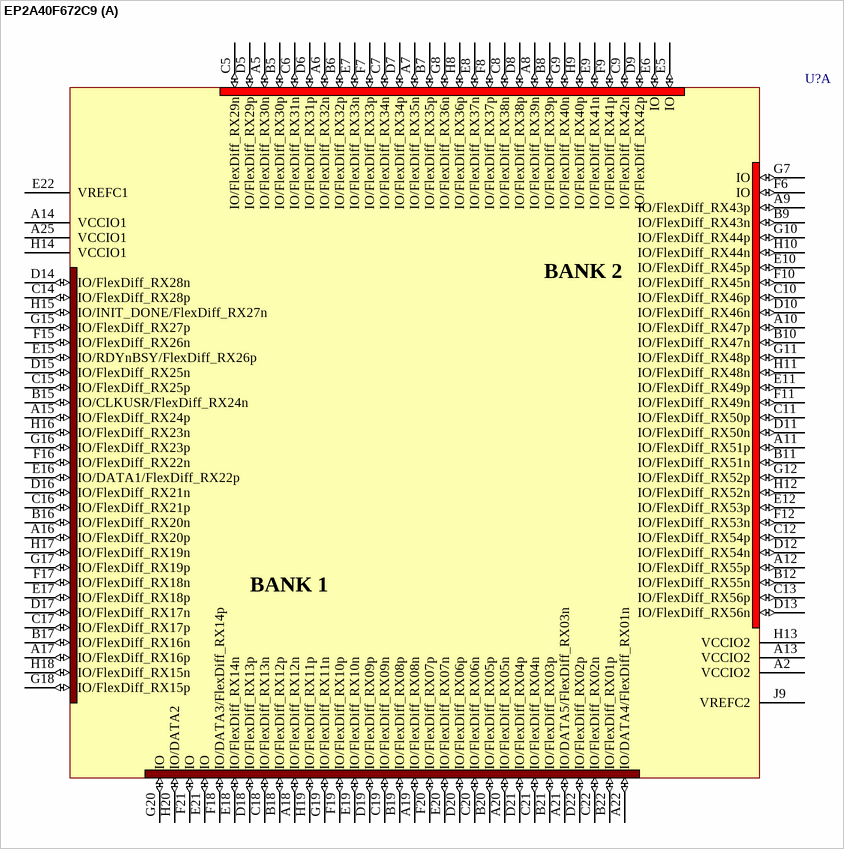
[diagram p86: symbol EP2A40F672C9]

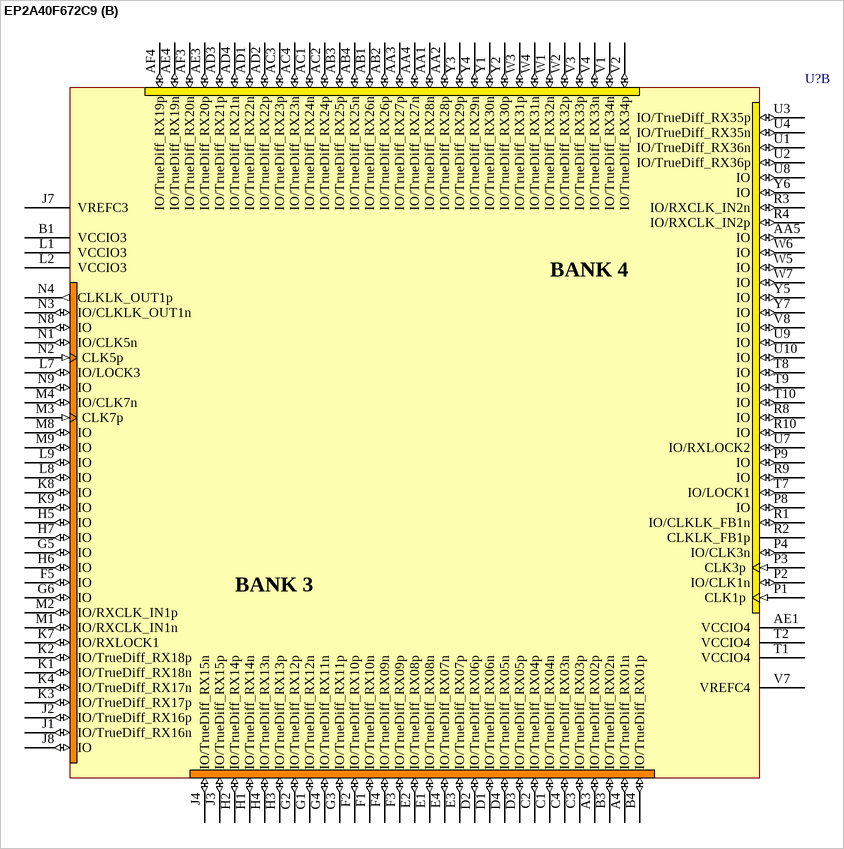
[diagram p87: symbol EP2A40F672C9]

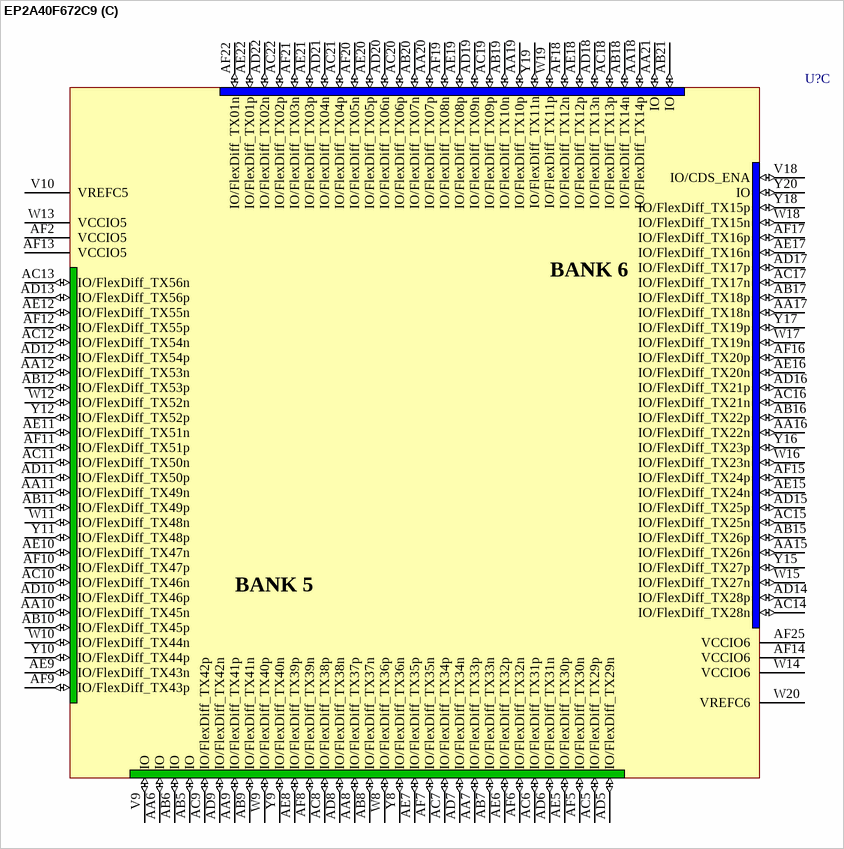
[diagram p88: symbol EP2A40F672C9]

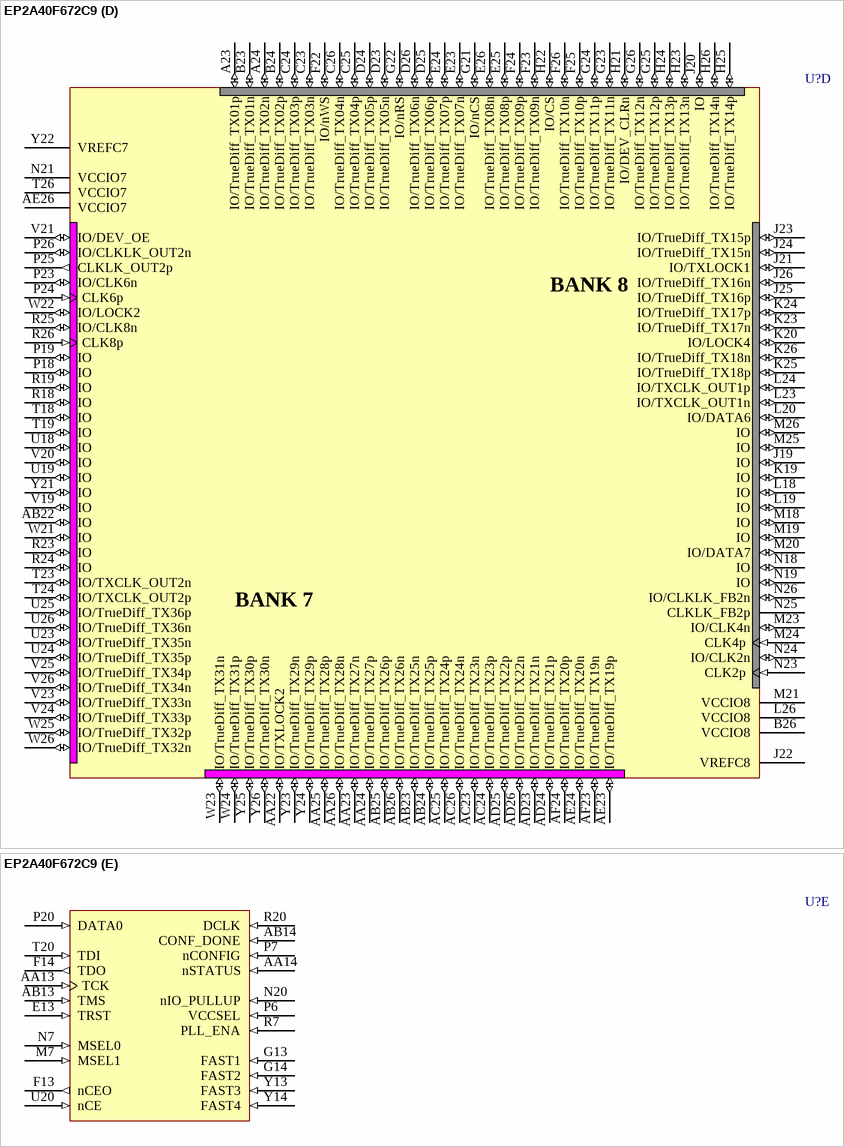
[diagram p89: symbol EP2A40F672C9]

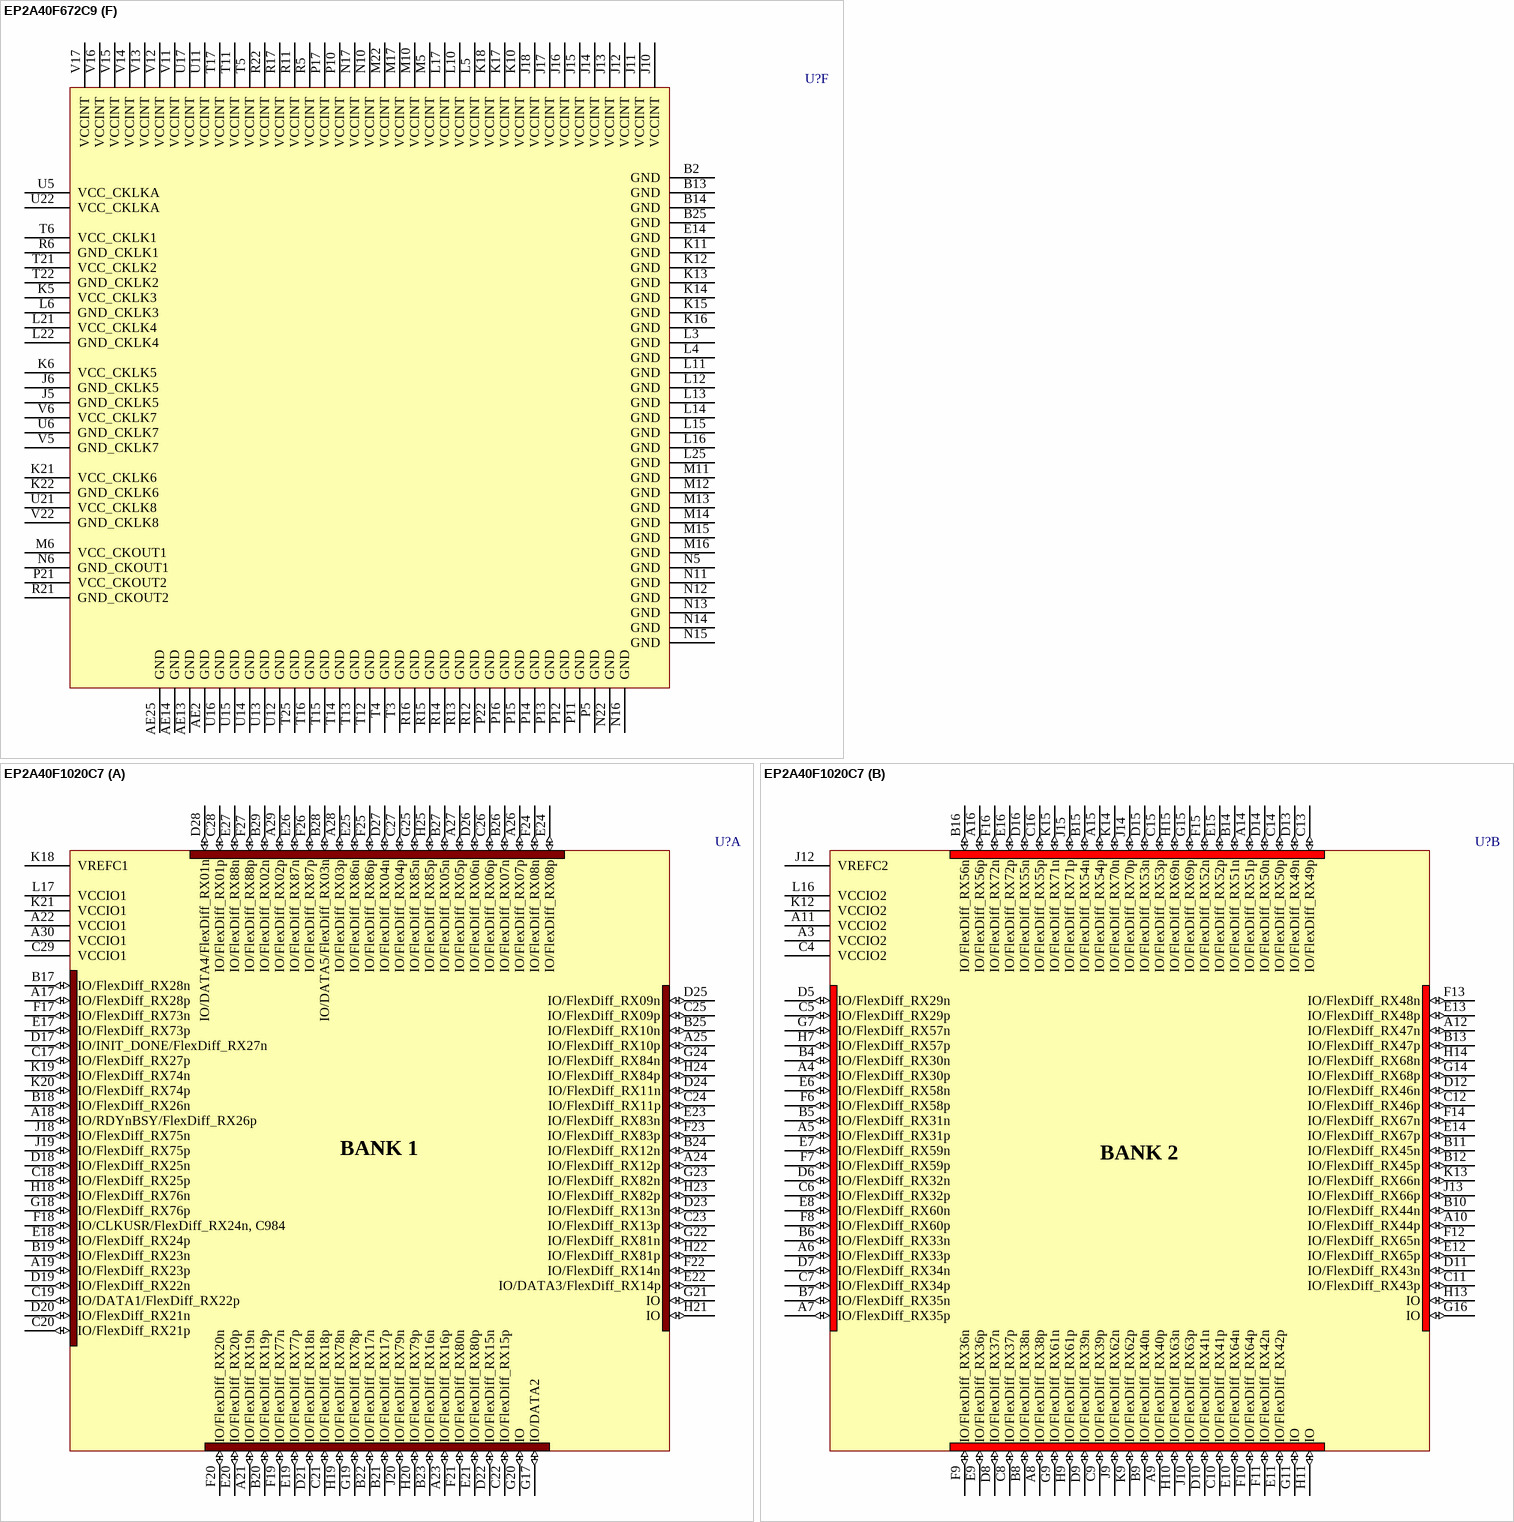
[diagram p90: symbols EP2A40F672C9 to EP2A40F1020C7]

## EP2A40F672C9
designator U?
APEX II, 1.5V FPGA with 4 PLLs, 492 I/O pins, Commercial Grade, Speed Grade 9; Published: 23-Sep-2002; LatestRevisionDate: 13-Apr-2006; LatestRevisionNote: IPC-7351 Footprint Added.; DatasheetVersion: ver3.0, Aug-2002; PackageVersion: ver14.1, Oct-2005; PackageReference: FBGA672; Publisher: Altium Limited; PackageDescription: 672-Ball FineLine Ball Grid Array (FBGA672) - Flip Chip; Code_JEDEC: MS-034-AAL-1; ComponentLink1Description: Manufacturer Link; ComponentLink1URL: http://www.altera.com/products/devices/apex2/ap2-index.html; ComponentLink2Description: Datasheet; ComponentLink2URL: http://www.altera.com/literature/ds/ds_ap2.pdf
footprint FBGA672 (BGA, 672-Leads, Body 27x27mm, Pitch 1mm)
3D model EP2A40-FBGA672T (672-Ball FineLine Ball Grid Array (FBGA672) - Flip Chip)
part A pins: A2 VCCIO2 (power), A5 IO/FlexDiff_RX30n (io), A6 IO/FlexDiff_RX32n (io), A7 IO/FlexDiff_RX35n (io), A8 IO/FlexDiff_RX39n (io), A9 IO/FlexDiff_RX43p (io), A10 IO/FlexDiff_RX47p (io), A11 IO/FlexDiff_RX51p (io), A12 IO/FlexDiff_RX55p (io), A13 VCCIO2 (power), A14 VCCIO1 (power), A15 IO/FlexDiff_RX24p (io), A16 IO/FlexDiff_RX20p (io), A17 IO/FlexDiff_RX16p (io), A18 IO/FlexDiff_RX12n (io), A19 IO/FlexDiff_RX08n (io), A20 IO/FlexDiff_RX05n (io), A21 IO/DATA5/FlexDiff_RX03n (io), A22 IO/DATA4/FlexDiff_RX01n (io), A25 VCCIO1 (power), B5 IO/FlexDiff_RX30p (io), B6 IO/FlexDiff_RX32p (io), B7 IO/FlexDiff_RX35p (io), B8 IO/FlexDiff_RX39p (io), B9 IO/FlexDiff_RX43n (io), B10 IO/FlexDiff_RX47n (io), B11 IO/FlexDiff_RX51n (io), B12 IO/FlexDiff_RX55n (io), B15 IO/CLKUSR/FlexDiff_RX24n (io), B16 IO/FlexDiff_RX20n (io), B17 IO/FlexDiff_RX16n (io), B18 IO/FlexDiff_RX12p (io), B19 IO/FlexDiff_RX08p (io), B20 IO/FlexDiff_RX05p (io), B21 IO/FlexDiff_RX03p (io), B22 IO/FlexDiff_RX01p (io), C5 IO/FlexDiff_RX29n (io), C6 IO/FlexDiff_RX31n (io), C7 IO/FlexDiff_RX34n (io), C8 IO/FlexDiff_RX38n (io), C9 IO/FlexDiff_RX42n (io), C10 IO/FlexDiff_RX46p (io), C11 IO/FlexDiff_RX50p (io), C12 IO/FlexDiff_RX54p (io), C13 IO/FlexDiff_RX56p (io), C14 IO/FlexDiff_RX28p (io), C15 IO/FlexDiff_RX25p (io), C16 IO/FlexDiff_RX21p (io), C17 IO/FlexDiff_RX17p (io), C18 IO/FlexDiff_RX13n (io), C19 IO/FlexDiff_RX09n (io), C20 IO/FlexDiff_RX06n (io), C21 IO/FlexDiff_RX04n (io), C22 IO/FlexDiff_RX02n (io), D5 IO/FlexDiff_RX29p (io), D6 IO/FlexDiff_RX31p (io), D7 IO/FlexDiff_RX34p (io), D8 IO/FlexDiff_RX38p (io), D9 IO/FlexDiff_RX42p (io), D10 IO/FlexDiff_RX46n (io), D11 IO/FlexDiff_RX50n (io), D12 IO/FlexDiff_RX54n (io), D13 IO/FlexDiff_RX56n (io), D14 IO/FlexDiff_RX28n (io), D15 IO/FlexDiff_RX25n (io), D16 IO/FlexDiff_RX21n (io), D17 IO/FlexDiff_RX17n (io), D18 IO/FlexDiff_RX13p (io), D19 IO/FlexDiff_RX09p (io), D20 IO/FlexDiff_RX06p (io), D21 IO/FlexDiff_RX04p (io), D22 IO/FlexDiff_RX02p (io), E5 IO (io), E6 IO (io), E7 IO/FlexDiff_RX33n (io), E8 IO/FlexDiff_RX37n (io), E9 IO/FlexDiff_RX41n (io), E10 IO/FlexDiff_RX45p (io), E11 IO/FlexDiff_RX49p (io), E12 IO/FlexDiff_RX53p (io), E15 IO/RDYnBSY/FlexDiff_RX26p (io), E16 IO/DATA1/FlexDiff_RX22p (io), E17 IO/FlexDiff_RX18p (io), E18 IO/FlexDiff_RX14n (io), E19 IO/FlexDiff_RX10n (io), E20 IO/FlexDiff_RX07n (io), E21 IO (io), E22 VREFC1 (power), F6 IO (io), F7 IO/FlexDiff_RX33p (io), F8 IO/FlexDiff_RX37p (io), F9 IO/FlexDiff_RX41p (io), F10 IO/FlexDiff_RX45n (io), F11 IO/FlexDiff_RX49n (io), F12 IO/FlexDiff_RX53n (io), F15 IO/FlexDiff_RX26n (io), F16 IO/FlexDiff_RX22n (io), F17 IO/FlexDiff_RX18n (io), F18 IO/DATA3/FlexDiff_RX14p (io), F19 IO/FlexDiff_RX10p (io), F20 IO/FlexDiff_RX07p (io), F21 IO (io), G7 IO (io), G8 IO/FlexDiff_RX36n (io), G9 IO/FlexDiff_RX40n (io), G10 IO/FlexDiff_RX44p (io), G11 IO/FlexDiff_RX48p (io), G12 IO/FlexDiff_RX52p (io), G15 IO/FlexDiff_RX27p (io), G16 IO/FlexDiff_RX23p (io), G17 IO/FlexDiff_RX19p (io), G18 IO/FlexDiff_RX15p (io), G19 IO/FlexDiff_RX11n (io), G20 IO (io), H8 IO/FlexDiff_RX36p (io), H9 IO/FlexDiff_RX40p (io), H10 IO/FlexDiff_RX44n (io), H11 IO/FlexDiff_RX48n (io), H12 IO/FlexDiff_RX52n (io), H13 VCCIO2 (power), H14 VCCIO1 (power), H15 IO/INIT_DONE/FlexDiff_RX27n (io), H16 IO/FlexDiff_RX23n (io), H17 IO/FlexDiff_RX19n (io), H18 IO/FlexDiff_RX15n (io), H19 IO/FlexDiff_RX11p (io), H20 IO/DATA2 (io), J9 VREFC2 (power)
part B pins: A3 IO/TrueDiff_RX02p (io), A4 IO/TrueDiff_RX01n (io), AA1 IO/TrueDiff_RX28n (io), AA2 IO/TrueDiff_RX28p (io), AA3 IO/TrueDiff_RX27p (io), AA4 IO/TrueDiff_RX27n (io), AA5 IO (io), AB1 IO/TrueDiff_RX26n (io), AB2 IO/TrueDiff_RX26p (io), AB3 IO/TrueDiff_RX25p (io), AB4 IO/TrueDiff_RX25n (io), AC1 IO/TrueDiff_RX24n (io), AC2 IO/TrueDiff_RX24p (io), AC3 IO/TrueDiff_RX23p (io), AC4 IO/TrueDiff_RX23n (io), AD1 IO/TrueDiff_RX22n (io), AD2 IO/TrueDiff_RX22p (io), AD3 IO/TrueDiff_RX21p (io), AD4 IO/TrueDiff_RX21n (io), AE1 VCCIO4 (power), AE3 IO/TrueDiff_RX20p (io), AE4 IO/TrueDiff_RX19n (io), AF3 IO/TrueDiff_RX20n (io), AF4 IO/TrueDiff_RX19p (io), B1 VCCIO3 (power), B3 IO/TrueDiff_RX02n (io), B4 IO/TrueDiff_RX01p (io), C1 IO/TrueDiff_RX04n (io), C2 IO/TrueDiff_RX04p (io), C3 IO/TrueDiff_RX03p (io), C4 IO/TrueDiff_RX03n (io), D1 IO/TrueDiff_RX06n (io), D2 IO/TrueDiff_RX06p (io), D3 IO/TrueDiff_RX05p (io), D4 IO/TrueDiff_RX05n (io), E1 IO/TrueDiff_RX08n (io), E2 IO/TrueDiff_RX08p (io), E3 IO/TrueDiff_RX07p (io), E4 IO/TrueDiff_RX07n (io), F1 IO/TrueDiff_RX10n (io), F2 IO/TrueDiff_RX10p (io), F3 IO/TrueDiff_RX09p (io), F4 IO/TrueDiff_RX09n (io), F5 IO (io), G1 IO/TrueDiff_RX12n (io), G2 IO/TrueDiff_RX12p (io), G3 IO/TrueDiff_RX11p (io), G4 IO/TrueDiff_RX11n (io), G5 IO (io), G6 IO (io), H1 IO/TrueDiff_RX14n (io), H2 IO/TrueDiff_RX14p (io), H3 IO/TrueDiff_RX13p (io), H4 IO/TrueDiff_RX13n (io), H5 IO (io), H6 IO (io), H7 IO (io), J1 IO/TrueDiff_RX16n (io), J2 IO/TrueDiff_RX16p (io), J3 IO/TrueDiff_RX15p (io), J4 IO/TrueDiff_RX15n (io), J7 VREFC3 (power), J8 IO (io), K1 IO/TrueDiff_RX18n (io), K2 IO/TrueDiff_RX18p (io), K3 IO/TrueDiff_RX17p (io), K4 IO/TrueDiff_RX17n (io), K7 IO/RXLOCK1 (io), K8 IO (io), K9 IO (io), L1 VCCIO3 (power), L2 VCCIO3 (power), L7 IO/LOCK3 (io), L8 IO (io), L9 IO (io), M1 IO/RXCLK_IN1n (io), M2 IO/RXCLK_IN1p (io), M3 CLK7p (in), M4 IO/CLK7n (io), M8 IO (io), M9 IO (io), N1 IO/CLK5n (io), N2 CLK5p (in), N3 IO/CLKLK_OUT1n (io), N4 CLKLK_OUT1p (out), N8 IO (io), N9 IO (io), P1 CLK1p (in), P2 IO/CLK1n (io), P3 CLK3p (in), P4 IO/CLK3n (io), P8 IO (io), P9 IO (io), R1 IO/CLKLK_FB1n (io), R2 CLKLK_FB1p, R3 IO/RXCLK_IN2n (io), R4 IO/RXCLK_IN2p (io), R8 IO (io), R9 IO (io), R10 IO (io), T1 VCCIO4 (power), T2 VCCIO4 (power), T7 IO/LOCK1 (io), T8 IO (io), T9 IO (io), T10 IO (io), U1 IO/TrueDiff_RX36n (io), U2 IO/TrueDiff_RX36p (io), U3 IO/TrueDiff_RX35p (io), U4 IO/TrueDiff_RX35n (io), U7 IO/RXLOCK2 (io), U8 IO (io), U9 IO (io), U10 IO (io), V1 IO/TrueDiff_RX34n (io), V2 IO/TrueDiff_RX34p (io), V3 IO/TrueDiff_RX33p (io), V4 IO/TrueDiff_RX33n (io), V7 VREFC4 (power), V8 IO (io), W1 IO/TrueDiff_RX32n (io), W2 IO/TrueDiff_RX32p (io), W3 IO/TrueDiff_RX31p (io), W4 IO/TrueDiff_RX31n (io), W5 IO (io), W6 IO (io), W7 IO (io), Y1 IO/TrueDiff_RX30n (io), Y2 IO/TrueDiff_RX30p (io), Y3 IO/TrueDiff_RX29p (io), Y4 IO/TrueDiff_RX29n (io), Y5 IO (io), Y6 IO (io), Y7 IO (io)
part C pins: AA6 IO (io), AA7 IO/FlexDiff_TX33p (io), AA8 IO/FlexDiff_TX37p (io), AA9 IO/FlexDiff_TX41p (io), AA10 IO/FlexDiff_TX45n (io), AA11 IO/FlexDiff_TX49n (io), AA12 IO/FlexDiff_TX53n (io), AA15 IO/FlexDiff_TX26n (io), AA16 IO/FlexDiff_TX22n (io), AA17 IO/FlexDiff_TX18n (io), AA18 IO/FlexDiff_TX14p (io), AA19 IO/FlexDiff_TX10p (io), AA20 IO/FlexDiff_TX07p (io), AA21 IO (io), AB5 IO (io), AB6 IO (io), AB7 IO/FlexDiff_TX33n (io), AB8 IO/FlexDiff_TX37n (io), AB9 IO/FlexDiff_TX41n (io), AB10 IO/FlexDiff_TX45p (io), AB11 IO/FlexDiff_TX49p (io), AB12 IO/FlexDiff_TX53p (io), AB15 IO/FlexDiff_TX26p (io), AB16 IO/FlexDiff_TX22p (io), AB17 IO/FlexDiff_TX18p (io), AB18 IO/FlexDiff_TX14n (io), AB19 IO/FlexDiff_TX10n (io), AB20 IO/FlexDiff_TX07n (io), AB21 IO (io), AC5 IO/FlexDiff_TX29p (io), AC6 IO/FlexDiff_TX31p (io), AC7 IO/FlexDiff_TX34p (io), AC8 IO/FlexDiff_TX38p (io), AC9 IO/FlexDiff_TX42p (io), AC10 IO/FlexDiff_TX46n (io), AC11 IO/FlexDiff_TX50n (io), AC12 IO/FlexDiff_TX54n (io), AC13 IO/FlexDiff_TX56n (io), AC14 IO/FlexDiff_TX28n (io), AC15 IO/FlexDiff_TX25n (io), AC16 IO/FlexDiff_TX21n (io), AC17 IO/FlexDiff_TX17n (io), AC18 IO/FlexDiff_TX13p (io), AC19 IO/FlexDiff_TX09p (io), AC20 IO/FlexDiff_TX06p (io), AC21 IO/FlexDiff_TX04p (io), AC22 IO/FlexDiff_TX02p (io), AD5 IO/FlexDiff_TX29n (io), AD6 IO/FlexDiff_TX31n (io), AD7 IO/FlexDiff_TX34n (io), AD8 IO/FlexDiff_TX38n (io), AD9 IO/FlexDiff_TX42n (io), AD10 IO/FlexDiff_TX46p (io), AD11 IO/FlexDiff_TX50p (io), AD12 IO/FlexDiff_TX54p (io), AD13 IO/FlexDiff_TX56p (io), AD14 IO/FlexDiff_TX28p (io), AD15 IO/FlexDiff_TX25p (io), AD16 IO/FlexDiff_TX21p (io), AD17 IO/FlexDiff_TX17p (io), AD18 IO/FlexDiff_TX13n (io), AD19 IO/FlexDiff_TX09n (io), AD20 IO/FlexDiff_TX06n (io), AD21 IO/FlexDiff_TX04n (io), AD22 IO/FlexDiff_TX02n (io), AE5 IO/FlexDiff_TX30p (io), AE6 IO/FlexDiff_TX32p (io), AE7 IO/FlexDiff_TX35p (io), AE8 IO/FlexDiff_TX39p (io), AE9 IO/FlexDiff_TX43n (io), AE10 IO/FlexDiff_TX47n (io), AE11 IO/FlexDiff_TX51n (io), AE12 IO/FlexDiff_TX55n (io), AE15 IO/FlexDiff_TX24n (io), AE16 IO/FlexDiff_TX20n (io), AE17 IO/FlexDiff_TX16n (io), AE18 IO/FlexDiff_TX12p (io), AE19 IO/FlexDiff_TX08p (io), AE20 IO/FlexDiff_TX05p (io), AE21 IO/FlexDiff_TX03p (io), AE22 IO/FlexDiff_TX01p (io), AF2 VCCIO5 (power), AF5 IO/FlexDiff_TX30n (io), AF6 IO/FlexDiff_TX32n (io), AF7 IO/FlexDiff_TX35n (io), AF8 IO/FlexDiff_TX39n (io), AF9 IO/FlexDiff_TX43p (io), AF10 IO/FlexDiff_TX47p (io), AF11 IO/FlexDiff_TX51p (io), AF12 IO/FlexDiff_TX55p (io), AF13 VCCIO5 (power), AF14 VCCIO6 (power), AF15 IO/FlexDiff_TX24p (io), AF16 IO/FlexDiff_TX20p (io), AF17 IO/FlexDiff_TX16p (io), AF18 IO/FlexDiff_TX12n (io), AF19 IO/FlexDiff_TX08n (io), AF20 IO/FlexDiff_TX05n (io), AF21 IO/FlexDiff_TX03n (io), AF22 IO/FlexDiff_TX01n (io), AF25 VCCIO6 (power), V9 IO (io), V10 VREFC5 (power), V18 IO/CDS_ENA (io), W8 IO/FlexDiff_TX36p (io), W9 IO/FlexDiff_TX40p (io), W10 IO/FlexDiff_TX44n (io), W11 IO/FlexDiff_TX48n (io), W12 IO/FlexDiff_TX52n (io), W13 VCCIO5 (power), W14 VCCIO6 (power), W15 IO/FlexDiff_TX27n (io), W16 IO/FlexDiff_TX23n (io), W17 IO/FlexDiff_TX19n (io), W18 IO/FlexDiff_TX15n (io), W19 IO/FlexDiff_TX11p (io), W20 VREFC6 (power), Y8 IO/FlexDiff_TX36n (io), Y9 IO/FlexDiff_TX40n (io), Y10 IO/FlexDiff_TX44p (io), Y11 IO/FlexDiff_TX48p (io), Y12 IO/FlexDiff_TX52p (io), Y15 IO/FlexDiff_TX27p (io), Y16 IO/FlexDiff_TX23p (io), Y17 IO/FlexDiff_TX19p (io), Y18 IO/FlexDiff_TX15p (io), Y19 IO/FlexDiff_TX11n (io), Y20 IO (io)
part D pins: A23 IO/TrueDiff_TX01p (io), A24 IO/TrueDiff_TX02n (io), AA22 IO/TXLOCK2 (io), AA23 IO/TrueDiff_TX27n (io), AA24 IO/TrueDiff_TX27p (io), AA25 IO/TrueDiff_TX28p (io), AA26 IO/TrueDiff_TX28n (io), AB22 IO (io), AB23 IO/TrueDiff_TX25n (io), AB24 IO/TrueDiff_TX25p (io), AB25 IO/TrueDiff_TX26p (io), AB26 IO/TrueDiff_TX26n (io), AC23 IO/TrueDiff_TX23n (io), AC24 IO/TrueDiff_TX23p (io), AC25 IO/TrueDiff_TX24p (io), AC26 IO/TrueDiff_TX24n (io), AD23 IO/TrueDiff_TX21n (io), AD24 IO/TrueDiff_TX21p (io), AD25 IO/TrueDiff_TX22p (io), AD26 IO/TrueDiff_TX22n (io), AE23 IO/TrueDiff_TX19p (io), AE24 IO/TrueDiff_TX20n (io), AE26 VCCIO7 (power), AF23 IO/TrueDiff_TX19n (io), AF24 IO/TrueDiff_TX20p (io), B23 IO/TrueDiff_TX01n (io), B24 IO/TrueDiff_TX02p (io), B26 VCCIO8 (power), C23 IO/TrueDiff_TX03n (io), C24 IO/TrueDiff_TX03p (io), C25 IO/TrueDiff_TX04p (io), C26 IO/TrueDiff_TX04n (io), D23 IO/TrueDiff_TX05n (io), D24 IO/TrueDiff_TX05p (io), D25 IO/TrueDiff_TX06p (io), D26 IO/TrueDiff_TX06n (io), E23 IO/TrueDiff_TX07n (io), E24 IO/TrueDiff_TX07p (io), E25 IO/TrueDiff_TX08p (io), E26 IO/TrueDiff_TX08n (io), F22 IO/nWS (io), F23 IO/TrueDiff_TX09n (io), F24 IO/TrueDiff_TX09p (io), F25 IO/TrueDiff_TX10p (io), F26 IO/TrueDiff_TX10n (io), G21 IO/nCS (io), G22 IO/nRS (io), G23 IO/TrueDiff_TX11n (io), G24 IO/TrueDiff_TX11p (io), G25 IO/TrueDiff_TX12p (io), G26 IO/TrueDiff_TX12n (io), H21 IO/DEV_CLRn (io), H22 IO/CS (io), H23 IO/TrueDiff_TX13n (io), H24 IO/TrueDiff_TX13p (io), H25 IO/TrueDiff_TX14p (io), H26 IO/TrueDiff_TX14n (io), J19 IO (io), J20 IO (io), J21 IO/TXLOCK1 (io), J22 VREFC8 (power), J23 IO/TrueDiff_TX15p (io), J24 IO/TrueDiff_TX15n (io), J25 IO/TrueDiff_TX16p (io), J26 IO/TrueDiff_TX16n (io), K19 IO (io), K20 IO/LOCK4 (io), K23 IO/TrueDiff_TX17n (io), K24 IO/TrueDiff_TX17p (io), K25 IO/TrueDiff_TX18p (io), K26 IO/TrueDiff_TX18n (io), L18 IO (io), L19 IO (io), L20 IO/DATA6 (io), L23 IO/TXCLK_OUT1n (io), L24 IO/TXCLK_OUT1p (io), L26 VCCIO8 (power), M18 IO (io), M19 IO (io), M20 IO/DATA7 (io), M21 VCCIO8 (power), M23 IO/CLK4n (io), M24 CLK4p (in), M25 IO (io), M26 IO (io), N18 IO (io), N19 IO (io), N21 VCCIO7 (power), N23 CLK2p (in), N24 IO/CLK2n (io), N25 CLKLK_FB2p, N26 IO/CLKLK_FB2n (io), P18 IO (io), P19 IO (io), P23 IO/CLK6n (io), P24 CLK6p (in), P25 CLKLK_OUT2p (out), P26 IO/CLKLK_OUT2n (io), R18 IO (io), R19 IO (io), R23 IO (io), R24 IO (io), R25 IO/CLK8n (io), R26 CLK8p (in), T18 IO (io), T19 IO (io), T23 IO/TXCLK_OUT2n (io), T24 IO/TXCLK_OUT2p (io), T26 VCCIO7 (power), U18 IO (io), U19 IO (io), U23 IO/TrueDiff_TX35n (io), U24 IO/TrueDiff_TX35p (io), U25 IO/TrueDiff_TX36p (io), U26 IO/TrueDiff_TX36n (io), V19 IO (io), V20 IO (io), V21 IO/DEV_OE (io), V23 IO/TrueDiff_TX33n (io), V24 IO/TrueDiff_TX33p (io), V25 IO/TrueDiff_TX34p (io), V26 IO/TrueDiff_TX34n (io), W21 IO (io), W22 IO/LOCK2 (io), W23 IO/TrueDiff_TX31n (io), W24 IO/TrueDiff_TX31p (io), W25 IO/TrueDiff_TX32p (io), W26 IO/TrueDiff_TX32n (io), Y21 IO (io), Y22 VREFC7 (power), Y23 IO/TrueDiff_TX29n (io), Y24 IO/TrueDiff_TX29p (io), Y25 IO/TrueDiff_TX30p (io), Y26 IO/TrueDiff_TX30n (io)
part E pins: AA13 TCK (in), AA14 nSTATUS (in), AB13 TMS (in), AB14 CONF_DONE (in), E13 TRST (in), F13 nCEO (out), F14 TDO (out), G13 FAST1 (in), G14 FAST2 (in), M7 MSEL1 (in), N7 MSEL0 (in), N20 nIO_PULLUP (in), P6 VCCSEL (in), P7 nCONFIG (in), P20 DATA0 (in), R7 PLL_ENA (in), R20 DCLK (in), T20 TDI (in), U20 nCE (in), Y13 FAST3 (in), Y14 FAST4 (in)
part F pins: AE2 GND (power), AE13 GND (power), AE14 GND (power), AE25 GND (power), B2 GND (power), B13 GND (power), B14 GND (power), B25 GND (power), E14 GND (power), J5 GND_CKLK5 (power), J6 GND_CKLK5 (power), J10 VCCINT (power), J11 VCCINT (power), J12 VCCINT (power), J13 VCCINT (power), J14 VCCINT (power), J15 VCCINT (power), J16 VCCINT (power), J17 VCCINT (power), J18 VCCINT (power), K5 VCC_CKLK3 (power), K6 VCC_CKLK5 (power), K10 VCCINT (power), K11 GND (power), K12 GND (power), K13 GND (power), K14 GND (power), K15 GND (power), K16 GND (power), K17 VCCINT (power), K18 VCCINT (power), K21 VCC_CKLK6 (power), K22 GND_CKLK6 (power), L3 GND (power), L4 GND (power), L5 VCCINT (power), L6 GND_CKLK3 (power), L10 VCCINT (power), L11 GND (power), L12 GND (power), L13 GND (power), L14 GND (power), L15 GND (power), L16 GND (power), L17 VCCINT (power), L21 VCC_CKLK4 (power), L22 GND_CKLK4 (power), L25 GND (power), M5 VCCINT (power), M6 VCC_CKOUT1 (power), M10 VCCINT (power), M11 GND (power), M12 GND (power), M13 GND (power), M14 GND (power), M15 GND (power), M16 GND (power), M17 VCCINT (power), M22 VCCINT (power), N5 GND (power), N6 GND_CKOUT1 (power), N10 VCCINT (power), N11 GND (power), N12 GND (power), N13 GND (power), N14 GND (power), N15 GND (power), N16 GND (power), N17 VCCINT (power), N22 GND (power), P5 GND (power), P10 VCCINT (power), P11 GND (power), P12 GND (power), P13 GND (power), P14 GND (power), P15 GND (power), P16 GND (power), P17 VCCINT (power), P21 VCC_CKOUT2 (power), P22 GND (power), R5 VCCINT (power), R6 GND_CKLK1 (power), R11 VCCINT (power), R12 GND (power), R13 GND (power), R14 GND (power), R15 GND (power), R16 GND (power), R17 VCCINT (power), R21 GND_CKOUT2 (power), R22 VCCINT (power), T3 GND (power), T4 GND (power), T5 VCCINT (power), T6 VCC_CKLK1 (power), T11 VCCINT (power), T12 GND (power), T13 GND (power), T14 GND (power), T15 GND (power), T16 GND (power), T17 VCCINT (power), T21 VCC_CKLK2 (power), T22 GND_CKLK2 (power), T25 GND (power), U5 VCC_CKLKA (power), U6 GND_CKLK7 (power), U11 VCCINT (power), U12 GND (power), U13 GND (power), U14 GND (power), U15 GND (power), U16 GND (power), U17 VCCINT (power), U21 VCC_CKLK8 (power), U22 VCC_CKLKA (power), V5 GND_CKLK7 (power), V6 VCC_CKLK7 (power), V11 VCCINT (power), V12 VCCINT (power), V13 VCCINT (power), V14 VCCINT (power), V15 VCCINT (power), V16 VCCINT (power), V17 VCCINT (power), V22 GND_CKLK8 (power)
part A text: BANK 2; BANK 1
part B text: BANK 4; BANK 3
part C text: BANK 6; BANK 5
part D text: BANK 8; BANK 7

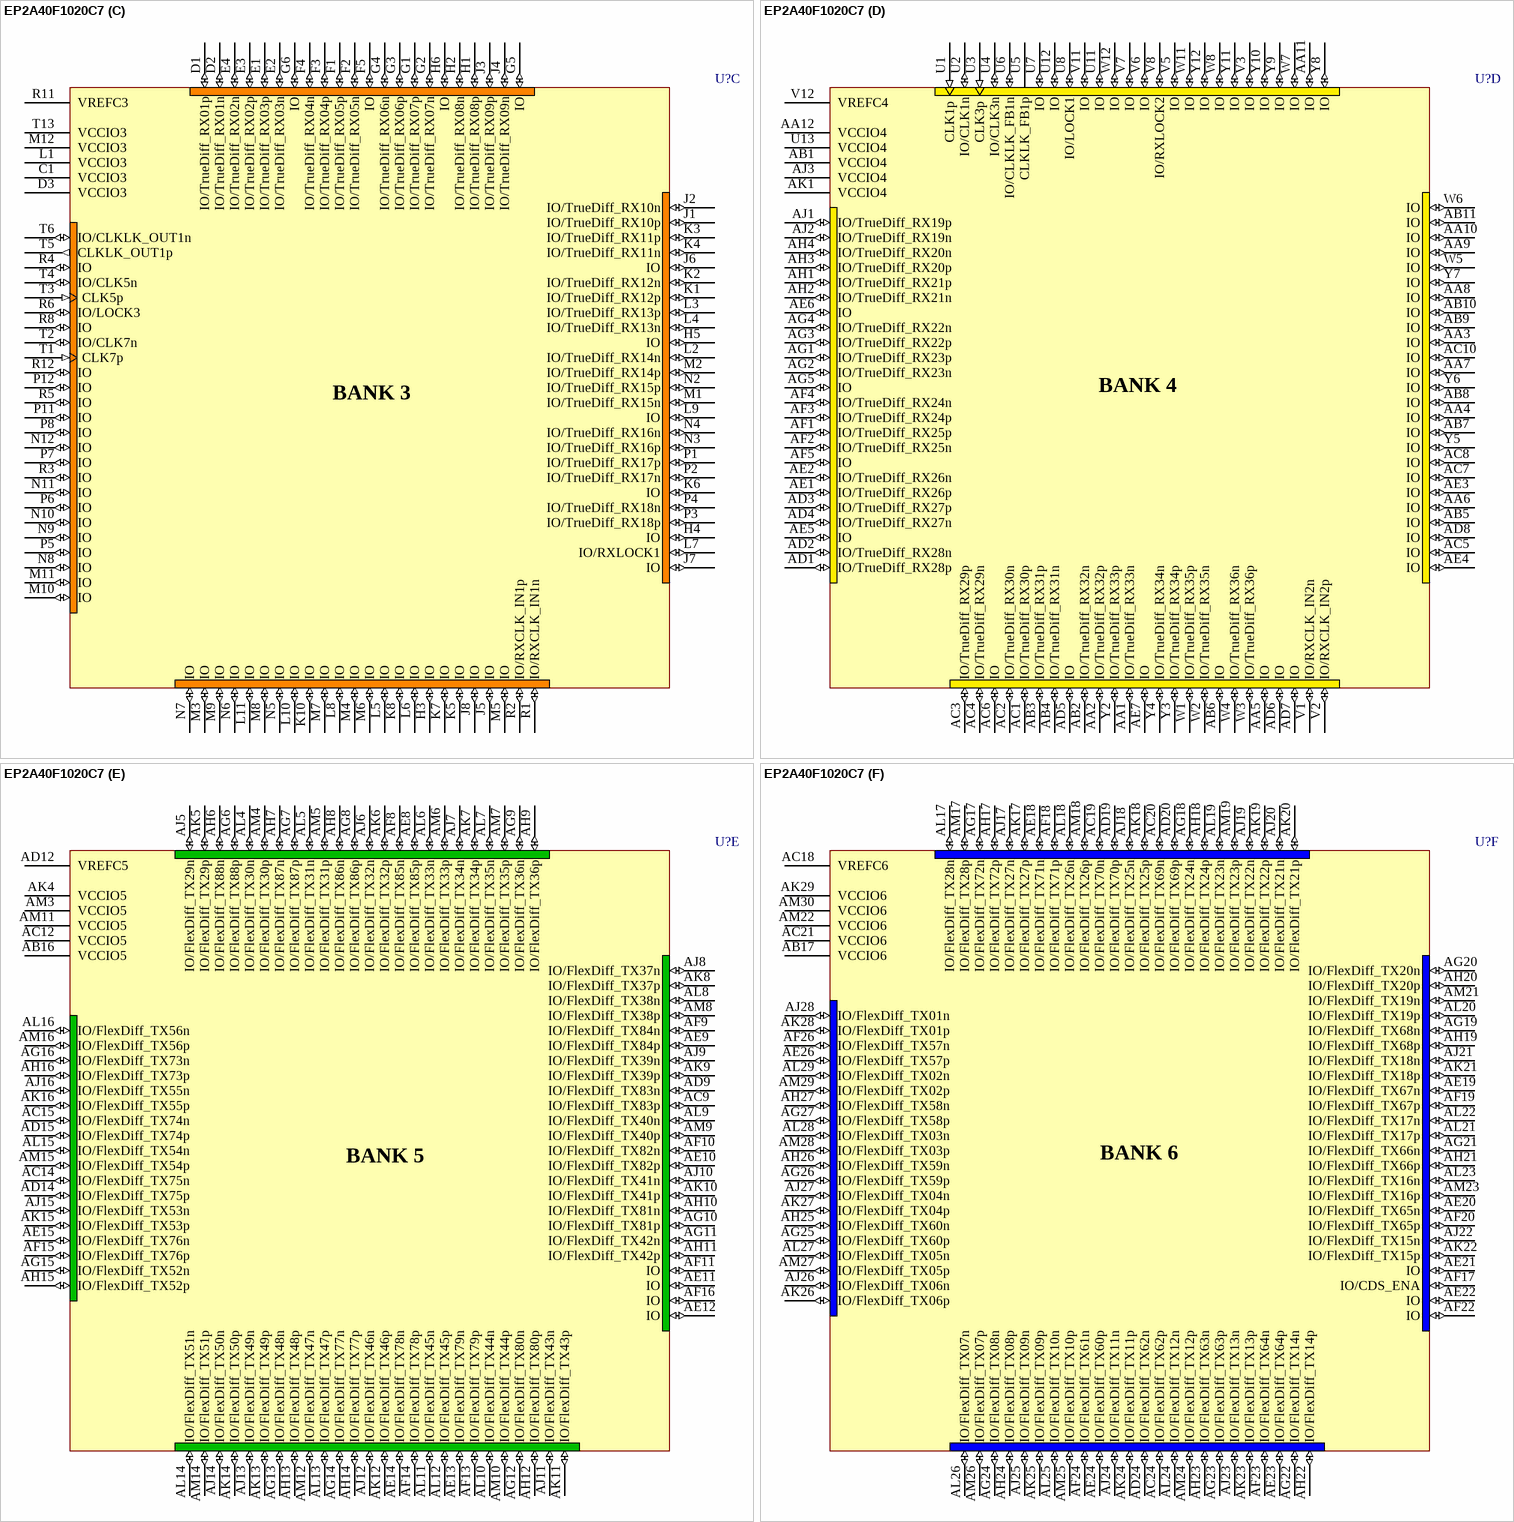
[diagram p91: symbol EP2A40F1020C7]